# Altium schematic symbol library dungvh03-CERN_Connectors.SchLib: 576 symbols (part 8 of 8)
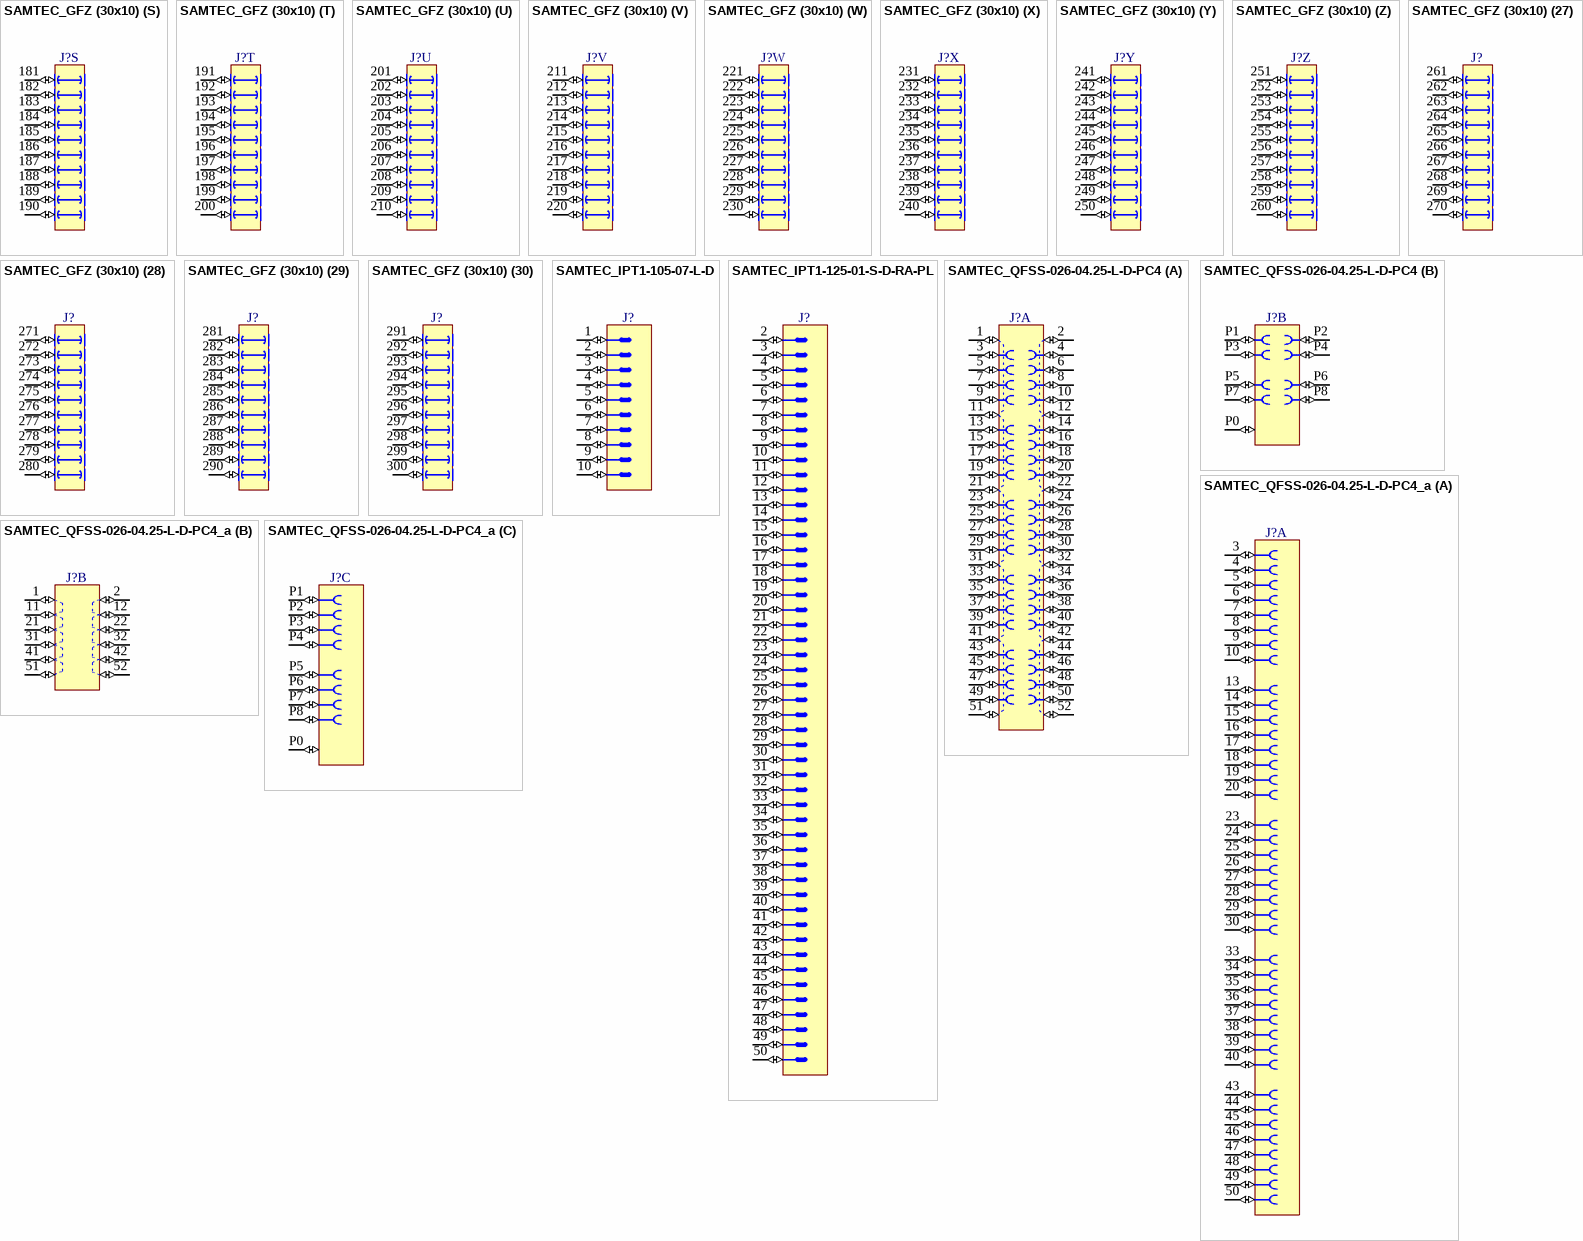
[diagram p82: symbols SAMTEC_GFZ (30x10) to SAMTEC_QFSS-026-04.25-L-D-PC4_a]

## SAMTEC_GFZ (30x10)
designator J?
Connector 300 (10X30)
part A pins: 1 (io), 2 (io), 3 (io), 4 (io), 5 (io), 6 (io), 7 (io), 8 (io), 9 (io), 10 (io)
part B pins: 11 (io), 12 (io), 13 (io), 14 (io), 15 (io), 16 (io), 17 (io), 18 (io), 19 (io), 20 (io)
part C pins: 21 (io), 22 (io), 23 (io), 24 (io), 25 (io), 26 (io), 27 (io), 28 (io), 29 (io), 30 (io)
part D pins: 31 (io), 32 (io), 33 (io), 34 (io), 35 (io), 36 (io), 37 (io), 38 (io), 39 (io), 40 (io)
part E pins: 41 (io), 42 (io), 43 (io), 44 (io), 45 (io), 46 (io), 47 (io), 48 (io), 49 (io), 50 (io)
part F pins: 51 (io), 52 (io), 53 (io), 54 (io), 55 (io), 56 (io), 57 (io), 58 (io), 59 (io), 60 (io)
part G pins: 61 (io), 62 (io), 63 (io), 64 (io), 65 (io), 66 (io), 67 (io), 68 (io), 69 (io), 70 (io)
part H pins: 71 (io), 72 (io), 73 (io), 74 (io), 75 (io), 76 (io), 77 (io), 78 (io), 79 (io), 80 (io)
part I pins: 81 (io), 82 (io), 83 (io), 84 (io), 85 (io), 86 (io), 87 (io), 88 (io), 89 (io), 90 (io)
part J pins: 91 (io), 92 (io), 93 (io), 94 (io), 95 (io), 96 (io), 97 (io), 98 (io), 99 (io), 100 (io)
part K pins: 101 (io), 102 (io), 103 (io), 104 (io), 105 (io), 106 (io), 107 (io), 108 (io), 109 (io), 110 (io)
part L pins: 111 (io), 112 (io), 113 (io), 114 (io), 115 (io), 116 (io), 117 (io), 118 (io), 119 (io), 120 (io)
part M pins: 121 (io), 122 (io), 123 (io), 124 (io), 125 (io), 126 (io), 127 (io), 128 (io), 129 (io), 130 (io)
part N pins: 131 (io), 132 (io), 133 (io), 134 (io), 135 (io), 136 (io), 137 (io), 138 (io), 139 (io), 140 (io)
part O pins: 141 (io), 142 (io), 143 (io), 144 (io), 145 (io), 146 (io), 147 (io), 148 (io), 149 (io), 150 (io)
part P pins: 151 (io), 152 (io), 153 (io), 154 (io), 155 (io), 156 (io), 157 (io), 158 (io), 159 (io), 160 (io)
part Q pins: 161 (io), 162 (io), 163 (io), 164 (io), 165 (io), 166 (io), 167 (io), 168 (io), 169 (io), 170 (io)
part R pins: 171 (io), 172 (io), 173 (io), 174 (io), 175 (io), 176 (io), 177 (io), 178 (io), 179 (io), 180 (io)
part S pins: 181 (io), 182 (io), 183 (io), 184 (io), 185 (io), 186 (io), 187 (io), 188 (io), 189 (io), 190 (io)
part T pins: 191 (io), 192 (io), 193 (io), 194 (io), 195 (io), 196 (io), 197 (io), 198 (io), 199 (io), 200 (io)
part U pins: 201 (io), 202 (io), 203 (io), 204 (io), 205 (io), 206 (io), 207 (io), 208 (io), 209 (io), 210 (io)
part V pins: 211 (io), 212 (io), 213 (io), 214 (io), 215 (io), 216 (io), 217 (io), 218 (io), 219 (io), 220 (io)
part W pins: 221 (io), 222 (io), 223 (io), 224 (io), 225 (io), 226 (io), 227 (io), 228 (io), 229 (io), 230 (io)
part X pins: 231 (io), 232 (io), 233 (io), 234 (io), 235 (io), 236 (io), 237 (io), 238 (io), 239 (io), 240 (io)
part Y pins: 241 (io), 242 (io), 243 (io), 244 (io), 245 (io), 246 (io), 247 (io), 248 (io), 249 (io), 250 (io)
part Z pins: 251 (io), 252 (io), 253 (io), 254 (io), 255 (io), 256 (io), 257 (io), 258 (io), 259 (io), 260 (io)
part 27 pins: 261 (io), 262 (io), 263 (io), 264 (io), 265 (io), 266 (io), 267 (io), 268 (io), 269 (io), 270 (io)
part 28 pins: 271 (io), 272 (io), 273 (io), 274 (io), 275 (io), 276 (io), 277 (io), 278 (io), 279 (io), 280 (io)
part 29 pins: 281 (io), 282 (io), 283 (io), 284 (io), 285 (io), 286 (io), 287 (io), 288 (io), 289 (io), 290 (io)
part 30 pins: 291 (io), 292 (io), 293 (io), 294 (io), 295 (io), 296 (io), 297 (io), 298 (io), 299 (io), 300 (io)
1 alternate drawing of the same symbol

## SAMTEC_IPT1-105-07-L-D
designator J?
Connector 10 Male Vertical
pins: 1 (io), 2 (io), 3 (io), 4 (io), 5 (io), 6 (io), 7 (io), 8 (io), 9 (io), 10 (io)
1 alternate drawing of the same symbol

## SAMTEC_IPT1-125-01-S-D-RA-PL
designator J?
Connector 49 Male (Pin 2 to Pin 50)
pins: 2 (io), 3 (io), 4 (io), 5 (io), 6 (io), 7 (io), 8 (io), 9 (io), 10 (io), 11 (io), 12 (io), 13 (io), 14 (io), 15 (io), 16 (io), 17 (io), 18 (io), 19 (io), 20 (io), 21 (io), 22 (io), 23 (io), 24 (io), 25 (io), 26 (io), 27 (io), 28 (io), 29 (io), 30 (io), 31 (io), 32 (io), 33 (io), 34 (io), 35 (io), 36 (io), 37 (io), 38 (io), 39 (io), 40 (io), 41 (io), 42 (io), 43 (io), 44 (io), 45 (io), 46 (io), 47 (io), 48 (io), 49 (io), 50 (io)
1 alternate drawing of the same symbol

## SAMTEC_QFSS-026-04.25-L-D-PC4
designator J?
52 Pins 0.635mm Pitch (40 Signals + 12 Grounds to Shield) + 2x4 Power Pins, Single-Ended Signaling Shielded Ground Plane Socket
part A pins: 1 (io), 2 (io), 3 (io), 4 (io), 5 (io), 6 (io), 7 (io), 8 (io), 9 (io), 10 (io), 11 (io), 12 (io), 13 (io), 14 (io), 15 (io), 16 (io), 17 (io), 18 (io), 19 (io), 20 (io), 21 (io), 22 (io), 23 (io), 24 (io), 25 (io), 26 (io), 27 (io), 28 (io), 29 (io), 30 (io), 31 (io), 32 (io), 33 (io), 34 (io), 35 (io), 36 (io), 37 (io), 38 (io), 39 (io), 40 (io), 41 (io), 42 (io), 43 (io), 44 (io), 45 (io), 46 (io), 47 (io), 48 (io), 49 (io), 50 (io), 51 (io), 52 (io)
part B pins: P0 (io), P1 (io), P2 (io), P3 (io), P4 (io), P5 (io), P6 (io), P7 (io), P8 (io)

## SAMTEC_QFSS-026-04.25-L-D-PC4_a
designator J?
52 Pins 0.635mm Pitch (40 Signals + 12 Grounds to Shield) + 2x4 Power Pins, Single-Ended Signaling Shielded Ground Plane Socket
part A pins: 3 (io), 4 (io), 5 (io), 6 (io), 7 (io), 8 (io), 9 (io), 10 (io), 13 (io), 14 (io), 15 (io), 16 (io), 17 (io), 18 (io), 19 (io), 20 (io), 23 (io), 24 (io), 25 (io), 26 (io), 27 (io), 28 (io), 29 (io), 30 (io), 33 (io), 34 (io), 35 (io), 36 (io), 37 (io), 38 (io), 39 (io), 40 (io), 43 (io), 44 (io), 45 (io), 46 (io), 47 (io), 48 (io), 49 (io), 50 (io)
part B pins: 1 (io), 2 (io), 11 (io), 12 (io), 21 (io), 22 (io), 31 (io), 32 (io), 41 (io), 42 (io), 51 (io), 52 (io)
part C pins: P0 (io), P1 (io), P2 (io), P3 (io), P4 (io), P5 (io), P6 (io), P7 (io), P8 (io)

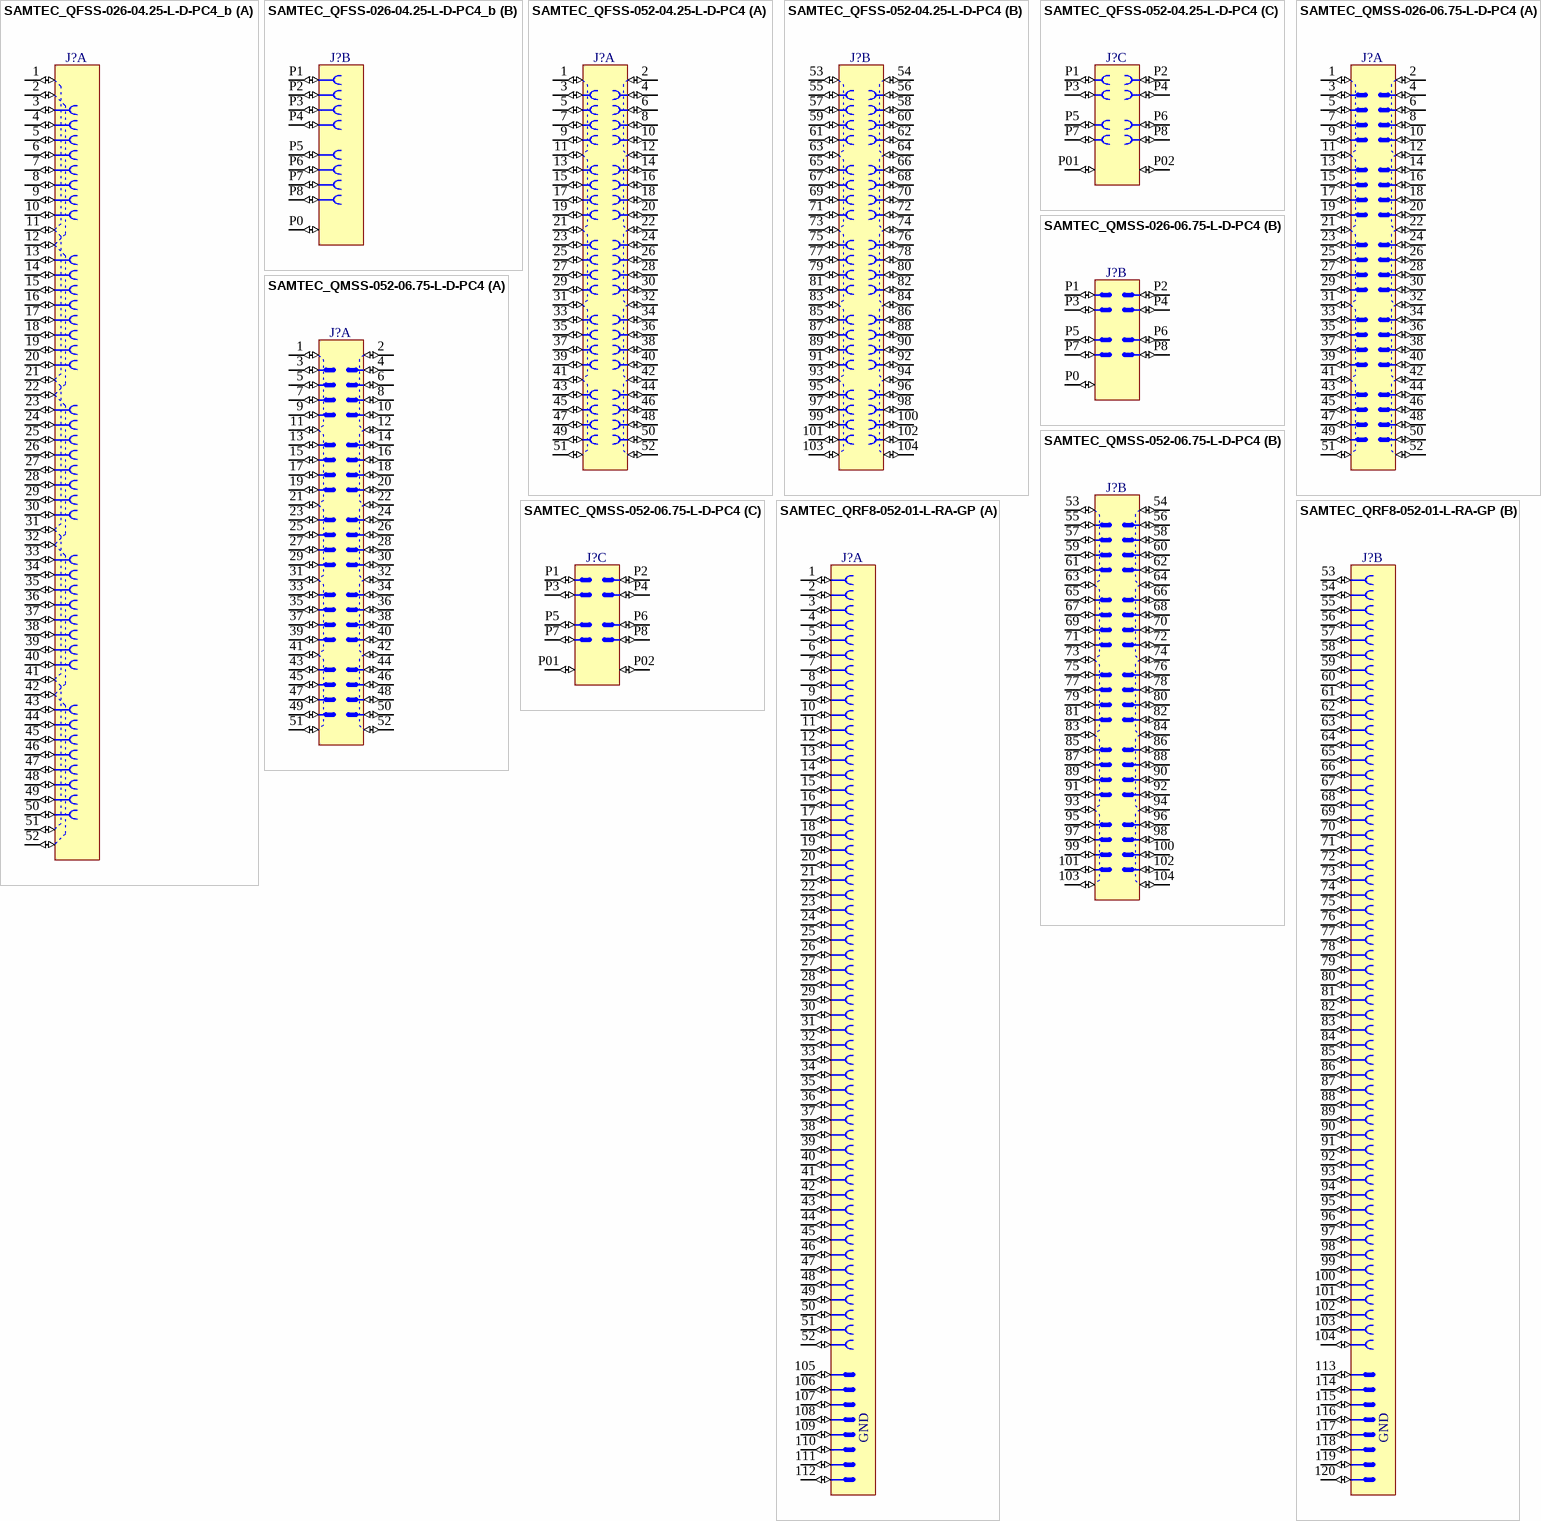
[diagram p68: symbols SAMTEC_QFSS-026-04.25-L-D-PC4_b to SAMTEC_QRF8-052-01-L-RA-GP]

## SAMTEC_QFSS-026-04.25-L-D-PC4_b
designator J?
52 Pins 0.635mm Pitch (40 Signals + 12 Grounds to Shield) + 2x4 Power Pins, Single-Ended Signaling Shielded Ground Plane Socket
part A pins: 1 (io), 2 (io), 3 (io), 4 (io), 5 (io), 6 (io), 7 (io), 8 (io), 9 (io), 10 (io), 11 (io), 12 (io), 13 (io), 14 (io), 15 (io), 16 (io), 17 (io), 18 (io), 19 (io), 20 (io), 21 (io), 22 (io), 23 (io), 24 (io), 25 (io), 26 (io), 27 (io), 28 (io), 29 (io), 30 (io), 31 (io), 32 (io), 33 (io), 34 (io), 35 (io), 36 (io), 37 (io), 38 (io), 39 (io), 40 (io), 41 (io), 42 (io), 43 (io), 44 (io), 45 (io), 46 (io), 47 (io), 48 (io), 49 (io), 50 (io), 51 (io), 52 (io)
part B pins: P0 (io), P1 (io), P2 (io), P3 (io), P4 (io), P5 (io), P6 (io), P7 (io), P8 (io)

## SAMTEC_QFSS-052-04.25-L-D-PC4
designator J?
104 Pins 0.635mm Pitch (4x20 Signals + 4x6 Grounds to Shield) + 2x4 Power Pins, Single-Ended Signaling Shielded Ground Plane Header
part A pins: 1 (io), 2 (io), 3 (io), 4 (io), 5 (io), 6 (io), 7 (io), 8 (io), 9 (io), 10 (io), 11 (io), 12 (io), 13 (io), 14 (io), 15 (io), 16 (io), 17 (io), 18 (io), 19 (io), 20 (io), 21 (io), 22 (io), 23 (io), 24 (io), 25 (io), 26 (io), 27 (io), 28 (io), 29 (io), 30 (io), 31 (io), 32 (io), 33 (io), 34 (io), 35 (io), 36 (io), 37 (io), 38 (io), 39 (io), 40 (io), 41 (io), 42 (io), 43 (io), 44 (io), 45 (io), 46 (io), 47 (io), 48 (io), 49 (io), 50 (io), 51 (io), 52 (io)
part B pins: 53 (io), 54 (io), 55 (io), 56 (io), 57 (io), 58 (io), 59 (io), 60 (io), 61 (io), 62 (io), 63 (io), 64 (io), 65 (io), 66 (io), 67 (io), 68 (io), 69 (io), 70 (io), 71 (io), 72 (io), 73 (io), 74 (io), 75 (io), 76 (io), 77 (io), 78 (io), 79 (io), 80 (io), 81 (io), 82 (io), 83 (io), 84 (io), 85 (io), 86 (io), 87 (io), 88 (io), 89 (io), 90 (io), 91 (io), 92 (io), 93 (io), 94 (io), 95 (io), 96 (io), 97 (io), 98 (io), 99 (io), 100 (io), 101 (io), 102 (io), 103 (io), 104 (io)
part C pins: P1 (io), P01 (io), P2 (io), P02 (io), P3 (io), P4 (io), P5 (io), P6 (io), P7 (io), P8 (io)

## SAMTEC_QMSS-026-06.75-L-D-PC4
designator J?
52 Pins 0.635mm Pitch (40 Signals + 12 Grounds to Shield) + 2x4 Power Pins, Single-Ended Signaling Shielded Ground Plane Header
part A pins: 1 (io), 2 (io), 3 (io), 4 (io), 5 (io), 6 (io), 7 (io), 8 (io), 9 (io), 10 (io), 11 (io), 12 (io), 13 (io), 14 (io), 15 (io), 16 (io), 17 (io), 18 (io), 19 (io), 20 (io), 21 (io), 22 (io), 23 (io), 24 (io), 25 (io), 26 (io), 27 (io), 28 (io), 29 (io), 30 (io), 31 (io), 32 (io), 33 (io), 34 (io), 35 (io), 36 (io), 37 (io), 38 (io), 39 (io), 40 (io), 41 (io), 42 (io), 43 (io), 44 (io), 45 (io), 46 (io), 47 (io), 48 (io), 49 (io), 50 (io), 51 (io), 52 (io)
part B pins: P0 (io), P1 (io), P2 (io), P3 (io), P4 (io), P5 (io), P6 (io), P7 (io), P8 (io)

## SAMTEC_QMSS-052-06.75-L-D-PC4
designator J?
104 Pins 0.635mm Pitch (40 Signals + 12 Grounds to Shield) + 2x4 Power Pins, Single-Ended Signaling Shielded Ground Plane Header
part A pins: 1 (io), 2 (io), 3 (io), 4 (io), 5 (io), 6 (io), 7 (io), 8 (io), 9 (io), 10 (io), 11 (io), 12 (io), 13 (io), 14 (io), 15 (io), 16 (io), 17 (io), 18 (io), 19 (io), 20 (io), 21 (io), 22 (io), 23 (io), 24 (io), 25 (io), 26 (io), 27 (io), 28 (io), 29 (io), 30 (io), 31 (io), 32 (io), 33 (io), 34 (io), 35 (io), 36 (io), 37 (io), 38 (io), 39 (io), 40 (io), 41 (io), 42 (io), 43 (io), 44 (io), 45 (io), 46 (io), 47 (io), 48 (io), 49 (io), 50 (io), 51 (io), 52 (io)
part B pins: 53 (io), 54 (io), 55 (io), 56 (io), 57 (io), 58 (io), 59 (io), 60 (io), 61 (io), 62 (io), 63 (io), 64 (io), 65 (io), 66 (io), 67 (io), 68 (io), 69 (io), 70 (io), 71 (io), 72 (io), 73 (io), 74 (io), 75 (io), 76 (io), 77 (io), 78 (io), 79 (io), 80 (io), 81 (io), 82 (io), 83 (io), 84 (io), 85 (io), 86 (io), 87 (io), 88 (io), 89 (io), 90 (io), 91 (io), 92 (io), 93 (io), 94 (io), 95 (io), 96 (io), 97 (io), 98 (io), 99 (io), 100 (io), 101 (io), 102 (io), 103 (io), 104 (io)
part C pins: P1 (io), P01 (io), P2 (io), P02 (io), P3 (io), P4 (io), P5 (io), P6 (io), P7 (io), P8 (io)

## SAMTEC_QRF8-052-01-L-RA-GP
designator J?
104 Contacts (2x52), Pitch 0.8mm, Right Angle Ground Plane Socket, QRF8-RA Serie
part A pins: 1 (io), 2 (io), 3 (io), 4 (io), 5 (io), 6 (io), 7 (io), 8 (io), 9 (io), 10 (io), 11 (io), 12 (io), 13 (io), 14 (io), 15 (io), 16 (io), 17 (io), 18 (io), 19 (io), 20 (io), 21 (io), 22 (io), 23 (io), 24 (io), 25 (io), 26 (io), 27 (io), 28 (io), 29 (io), 30 (io), 31 (io), 32 (io), 33 (io), 34 (io), 35 (io), 36 (io), 37 (io), 38 (io), 39 (io), 40 (io), 41 (io), 42 (io), 43 (io), 44 (io), 45 (io), 46 (io), 47 (io), 48 (io), 49 (io), 50 (io), 51 (io), 52 (io), 105 GND (io), 106 GND (io), 107 GND (io), 108 GND (io), 109 GND (io), 110 GND (io), 111 GND (io), 112 GND (io)
part B pins: 53 (io), 54 (io), 55 (io), 56 (io), 57 (io), 58 (io), 59 (io), 60 (io), 61 (io), 62 (io), 63 (io), 64 (io), 65 (io), 66 (io), 67 (io), 68 (io), 69 (io), 70 (io), 71 (io), 72 (io), 73 (io), 74 (io), 75 (io), 76 (io), 77 (io), 78 (io), 79 (io), 80 (io), 81 (io), 82 (io), 83 (io), 84 (io), 85 (io), 86 (io), 87 (io), 88 (io), 89 (io), 90 (io), 91 (io), 92 (io), 93 (io), 94 (io), 95 (io), 96 (io), 97 (io), 98 (io), 99 (io), 100 (io), 101 (io), 102 (io), 103 (io), 104 (io), 113 GND (io), 114 GND (io), 115 GND (io), 116 GND (io), 117 GND (io), 118 GND (io), 119 GND (io), 120 GND (io)

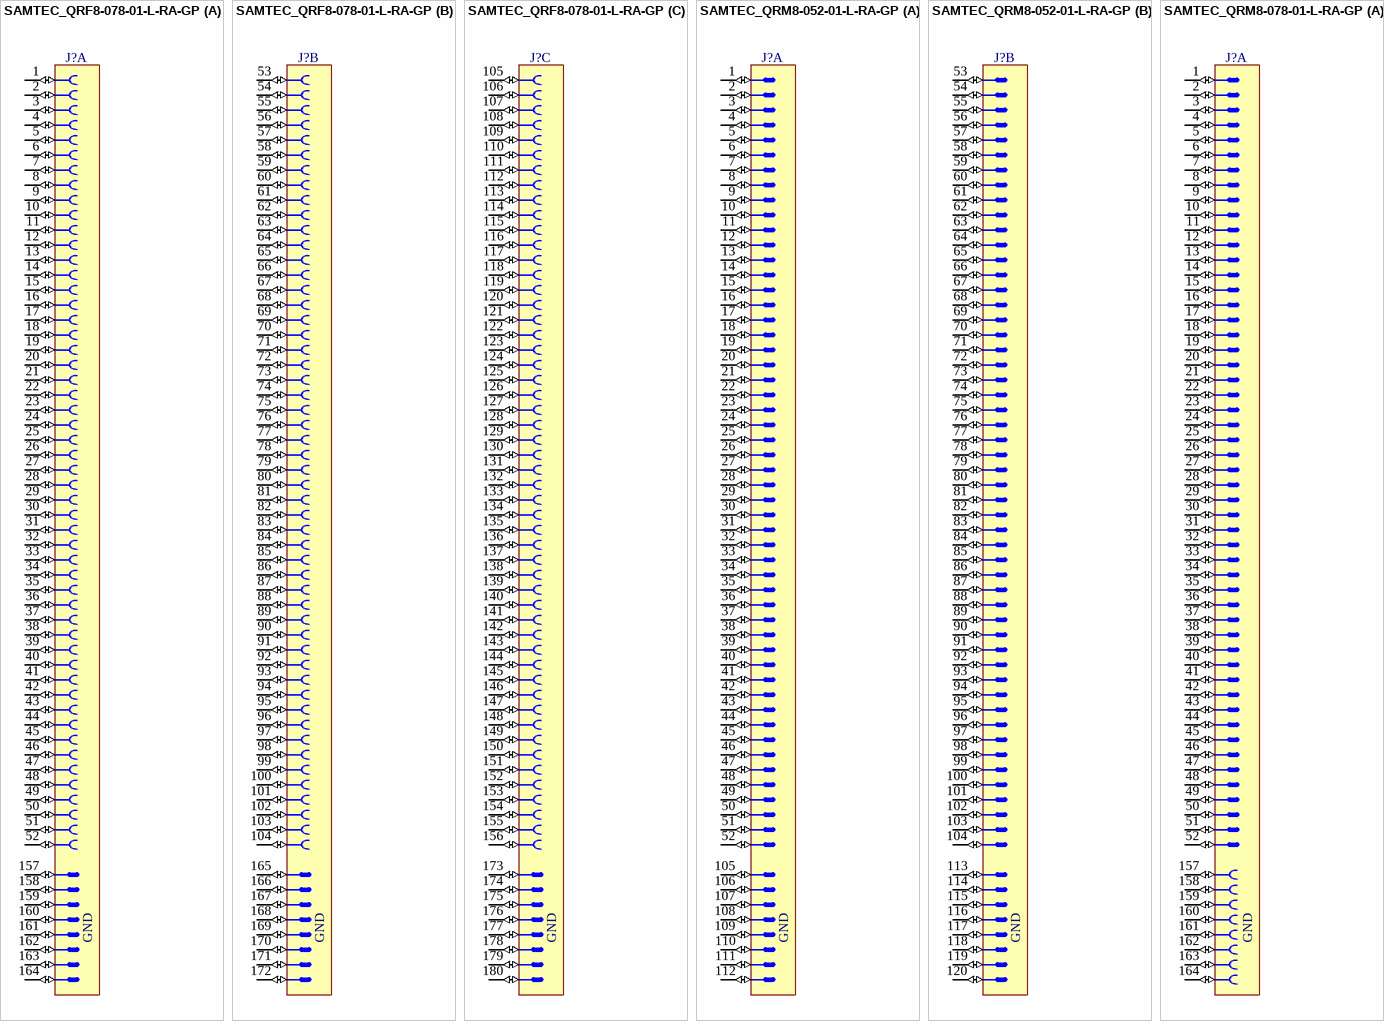
[diagram p69: symbols SAMTEC_QRF8-078-01-L-RA-GP to SAMTEC_QRM8-078-01-L-RA-GP]

## SAMTEC_QRF8-078-01-L-RA-GP
designator J?
156 Contacts (3x52), Pitch 0.8mm, Right Angle Ground Plane Socket, QRF8-RA Serie
part A pins: 1 (io), 2 (io), 3 (io), 4 (io), 5 (io), 6 (io), 7 (io), 8 (io), 9 (io), 10 (io), 11 (io), 12 (io), 13 (io), 14 (io), 15 (io), 16 (io), 17 (io), 18 (io), 19 (io), 20 (io), 21 (io), 22 (io), 23 (io), 24 (io), 25 (io), 26 (io), 27 (io), 28 (io), 29 (io), 30 (io), 31 (io), 32 (io), 33 (io), 34 (io), 35 (io), 36 (io), 37 (io), 38 (io), 39 (io), 40 (io), 41 (io), 42 (io), 43 (io), 44 (io), 45 (io), 46 (io), 47 (io), 48 (io), 49 (io), 50 (io), 51 (io), 52 (io), 157 GND (io), 158 GND (io), 159 GND (io), 160 GND (io), 161 GND (io), 162 GND (io), 163 GND (io), 164 GND (io)
part B pins: 53 (io), 54 (io), 55 (io), 56 (io), 57 (io), 58 (io), 59 (io), 60 (io), 61 (io), 62 (io), 63 (io), 64 (io), 65 (io), 66 (io), 67 (io), 68 (io), 69 (io), 70 (io), 71 (io), 72 (io), 73 (io), 74 (io), 75 (io), 76 (io), 77 (io), 78 (io), 79 (io), 80 (io), 81 (io), 82 (io), 83 (io), 84 (io), 85 (io), 86 (io), 87 (io), 88 (io), 89 (io), 90 (io), 91 (io), 92 (io), 93 (io), 94 (io), 95 (io), 96 (io), 97 (io), 98 (io), 99 (io), 100 (io), 101 (io), 102 (io), 103 (io), 104 (io), 165 GND (io), 166 GND (io), 167 GND (io), 168 GND (io), 169 GND (io), 170 GND (io), 171 GND (io), 172 GND (io)
part C pins: 105 (io), 106 (io), 107 (io), 108 (io), 109 (io), 110 (io), 111 (io), 112 (io), 113 (io), 114 (io), 115 (io), 116 (io), 117 (io), 118 (io), 119 (io), 120 (io), 121 (io), 122 (io), 123 (io), 124 (io), 125 (io), 126 (io), 127 (io), 128 (io), 129 (io), 130 (io), 131 (io), 132 (io), 133 (io), 134 (io), 135 (io), 136 (io), 137 (io), 138 (io), 139 (io), 140 (io), 141 (io), 142 (io), 143 (io), 144 (io), 145 (io), 146 (io), 147 (io), 148 (io), 149 (io), 150 (io), 151 (io), 152 (io), 153 (io), 154 (io), 155 (io), 156 (io), 173 GND (io), 174 GND (io), 175 GND (io), 176 GND (io), 177 GND (io), 178 GND (io), 179 GND (io), 180 GND (io)

## SAMTEC_QRM8-052-01-L-RA-GP
designator J?
104 Contacts (2x52), Pitch 0.8mm, Right Angle Ground Plane Header, QRM8-RA Series
part A pins: 1 (io), 2 (io), 3 (io), 4 (io), 5 (io), 6 (io), 7 (io), 8 (io), 9 (io), 10 (io), 11 (io), 12 (io), 13 (io), 14 (io), 15 (io), 16 (io), 17 (io), 18 (io), 19 (io), 20 (io), 21 (io), 22 (io), 23 (io), 24 (io), 25 (io), 26 (io), 27 (io), 28 (io), 29 (io), 30 (io), 31 (io), 32 (io), 33 (io), 34 (io), 35 (io), 36 (io), 37 (io), 38 (io), 39 (io), 40 (io), 41 (io), 42 (io), 43 (io), 44 (io), 45 (io), 46 (io), 47 (io), 48 (io), 49 (io), 50 (io), 51 (io), 52 (io), 105 GND (io), 106 GND (io), 107 GND (io), 108 GND (io), 109 GND (io), 110 GND (io), 111 GND (io), 112 GND (io)
part B pins: 53 (io), 54 (io), 55 (io), 56 (io), 57 (io), 58 (io), 59 (io), 60 (io), 61 (io), 62 (io), 63 (io), 64 (io), 65 (io), 66 (io), 67 (io), 68 (io), 69 (io), 70 (io), 71 (io), 72 (io), 73 (io), 74 (io), 75 (io), 76 (io), 77 (io), 78 (io), 79 (io), 80 (io), 81 (io), 82 (io), 83 (io), 84 (io), 85 (io), 86 (io), 87 (io), 88 (io), 89 (io), 90 (io), 91 (io), 92 (io), 93 (io), 94 (io), 95 (io), 96 (io), 97 (io), 98 (io), 99 (io), 100 (io), 101 (io), 102 (io), 103 (io), 104 (io), 113 GND (io), 114 GND (io), 115 GND (io), 116 GND (io), 117 GND (io), 118 GND (io), 119 GND (io), 120 GND (io)

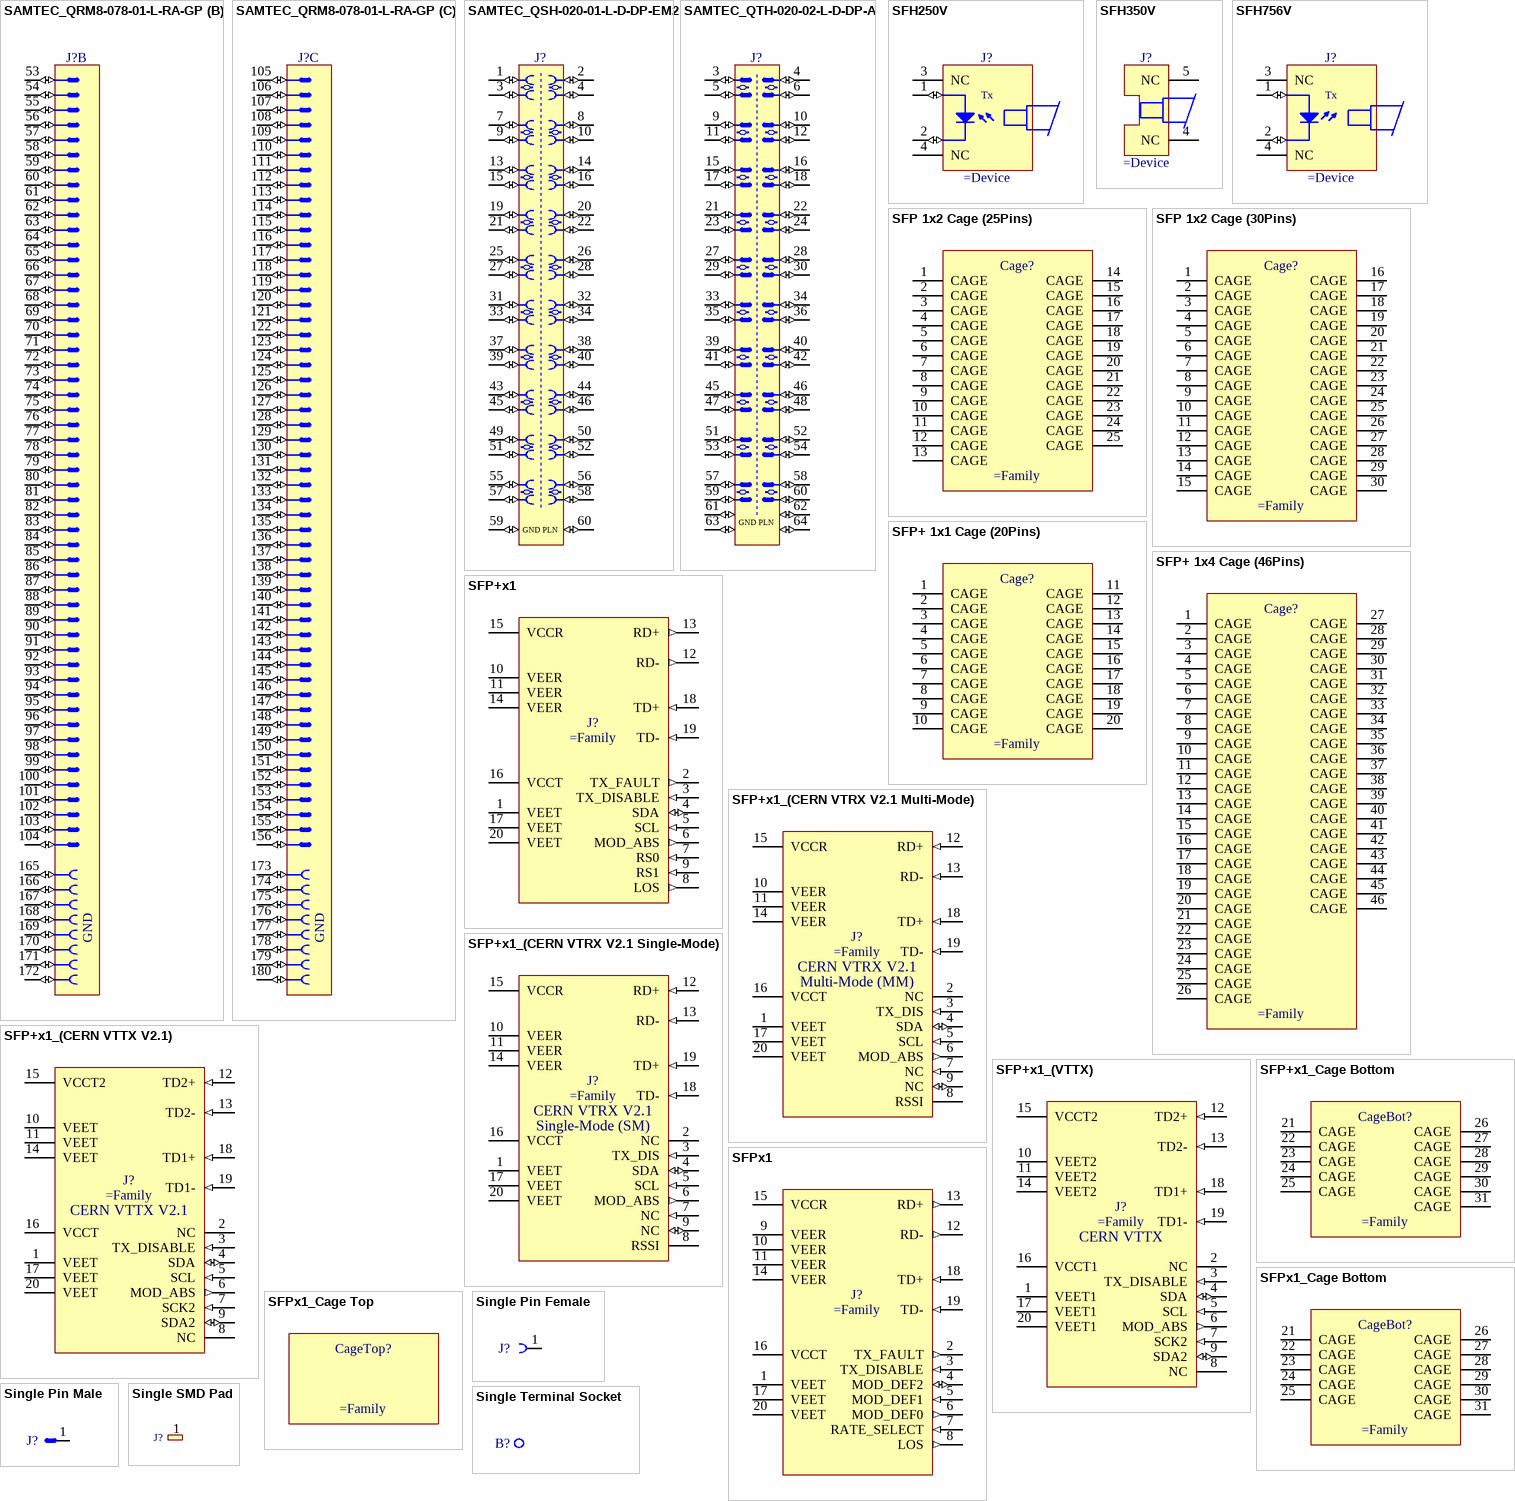
[diagram p70: symbols SAMTEC_QRM8-078-01-L-RA-GP to Single Terminal Socket]

## SAMTEC_QRM8-078-01-L-RA-GP
designator J?
156 Contacts (3x52), Pitch 0.8mm, Right Angle Ground Plane Header, QRM8-RA Series
part A pins: 1 (io), 2 (io), 3 (io), 4 (io), 5 (io), 6 (io), 7 (io), 8 (io), 9 (io), 10 (io), 11 (io), 12 (io), 13 (io), 14 (io), 15 (io), 16 (io), 17 (io), 18 (io), 19 (io), 20 (io), 21 (io), 22 (io), 23 (io), 24 (io), 25 (io), 26 (io), 27 (io), 28 (io), 29 (io), 30 (io), 31 (io), 32 (io), 33 (io), 34 (io), 35 (io), 36 (io), 37 (io), 38 (io), 39 (io), 40 (io), 41 (io), 42 (io), 43 (io), 44 (io), 45 (io), 46 (io), 47 (io), 48 (io), 49 (io), 50 (io), 51 (io), 52 (io), 157 GND (io), 158 GND (io), 159 GND (io), 160 GND (io), 161 GND (io), 162 GND (io), 163 GND (io), 164 GND (io)
part B pins: 53 (io), 54 (io), 55 (io), 56 (io), 57 (io), 58 (io), 59 (io), 60 (io), 61 (io), 62 (io), 63 (io), 64 (io), 65 (io), 66 (io), 67 (io), 68 (io), 69 (io), 70 (io), 71 (io), 72 (io), 73 (io), 74 (io), 75 (io), 76 (io), 77 (io), 78 (io), 79 (io), 80 (io), 81 (io), 82 (io), 83 (io), 84 (io), 85 (io), 86 (io), 87 (io), 88 (io), 89 (io), 90 (io), 91 (io), 92 (io), 93 (io), 94 (io), 95 (io), 96 (io), 97 (io), 98 (io), 99 (io), 100 (io), 101 (io), 102 (io), 103 (io), 104 (io), 165 GND (io), 166 GND (io), 167 GND (io), 168 GND (io), 169 GND (io), 170 GND (io), 171 GND (io), 172 GND (io)
part C pins: 105 (io), 106 (io), 107 (io), 108 (io), 109 (io), 110 (io), 111 (io), 112 (io), 113 (io), 114 (io), 115 (io), 116 (io), 117 (io), 118 (io), 119 (io), 120 (io), 121 (io), 122 (io), 123 (io), 124 (io), 125 (io), 126 (io), 127 (io), 128 (io), 129 (io), 130 (io), 131 (io), 132 (io), 133 (io), 134 (io), 135 (io), 136 (io), 137 (io), 138 (io), 139 (io), 140 (io), 141 (io), 142 (io), 143 (io), 144 (io), 145 (io), 146 (io), 147 (io), 148 (io), 149 (io), 150 (io), 151 (io), 152 (io), 153 (io), 154 (io), 155 (io), 156 (io), 173 GND (io), 174 GND (io), 175 GND (io), 176 GND (io), 177 GND (io), 178 GND (io), 179 GND (io), 180 GND (io)

## SAMTEC_QSH-020-01-L-D-DP-EM2
designator J?
40 Contacts (20 Differential Pairs) + 2 Ground, Pitch 0.5mm, Right Angle (PCB Edge Mount), High Speed Ground Plane Socket
pins: 1 (io), 2 (io), 3 (io), 4 (io), 7 (io), 8 (io), 9 (io), 10 (io), 13 (io), 14 (io), 15 (io), 16 (io), 19 (io), 20 (io), 21 (io), 22 (io), 25 (io), 26 (io), 27 (io), 28 (io), 31 (io), 32 (io), 33 (io), 34 (io), 37 (io), 38 (io), 39 (io), 40 (io), 43 (io), 44 (io), 45 (io), 46 (io), 49 (io), 50 (io), 51 (io), 52 (io), 55 (io), 56 (io), 57 (io), 58 (io), 59 (io), 60 (io)
text: GND PLN

## SAMTEC_QTH-020-02-L-D-DP-A
designator J?
40 Contacts (20 Differential Pairs) + 4 Ground, Pitch 0.5mm, Straight Double Row, High Speed Ground Plane Header
pins: 3 (io), 4 (io), 5 (io), 6 (io), 9 (io), 10 (io), 11 (io), 12 (io), 15 (io), 16 (io), 17 (io), 18 (io), 21 (io), 22 (io), 23 (io), 24 (io), 27 (io), 28 (io), 29 (io), 30 (io), 33 (io), 34 (io), 35 (io), 36 (io), 39 (io), 40 (io), 41 (io), 42 (io), 45 (io), 46 (io), 47 (io), 48 (io), 51 (io), 52 (io), 53 (io), 54 (io), 57 (io), 58 (io), 59 (io), 60 (io), 61 GND PLN (io), 62 GND PLN (io), 63 GND PLN (io), 64 GND PLN (io)

## SFH250V
designator J?
Plastic Connector Housing For Plastic Fiber Optic Photodiode Detector
pins: 1 A (io), 2 C (io), 3 NC, 4 NC
text: Tx

## SFH350V
designator J?
Plastic Connector Housing For Plastic Fiber Optic Phototransistor Detector
pins: 4 NC, 5 NC

## SFH756V
designator J?
Plastic Connector Housing For Plastic Fiber Optic Photodiode Detector
pins: 1 A (io), 2 C (io), 3 NC, 4 NC
text: Tx

## SFP 1x2 Cage (25Pins)
designator Cage?
SFP 1x2 Cage (25Pins)
pins: 1 CAGE (power), 2 CAGE (power), 3 CAGE (power), 4 CAGE (power), 5 CAGE (power), 6 CAGE (power), 7 CAGE (power), 8 CAGE (power), 9 CAGE (power), 10 CAGE (power), 11 CAGE (power), 12 CAGE (power), 13 CAGE (power), 14 CAGE (power), 15 CAGE (power), 16 CAGE (power), 17 CAGE (power), 18 CAGE (power), 19 CAGE (power), 20 CAGE (power), 21 CAGE (power), 22 CAGE (power), 23 CAGE (power), 24 CAGE (power), 25 CAGE (power)

## SFP 1x2 Cage (30Pins)
designator Cage?
SFP 1x2 Cage (30Pins)
pins: 1 CAGE (power), 2 CAGE (power), 3 CAGE (power), 4 CAGE (power), 5 CAGE (power), 6 CAGE (power), 7 CAGE (power), 8 CAGE (power), 9 CAGE (power), 10 CAGE (power), 11 CAGE (power), 12 CAGE (power), 13 CAGE (power), 14 CAGE (power), 15 CAGE (power), 16 CAGE (power), 17 CAGE (power), 18 CAGE (power), 19 CAGE (power), 20 CAGE (power), 21 CAGE (power), 22 CAGE (power), 23 CAGE (power), 24 CAGE (power), 25 CAGE (power), 26 CAGE (power), 27 CAGE (power), 28 CAGE (power), 29 CAGE (power), 30 CAGE (power)

## SFP+ 1x1 Cage (20Pins)
designator Cage?
SFP+ 1x1 Cage (20Pins)
pins: 1 CAGE (power), 2 CAGE (power), 3 CAGE (power), 4 CAGE (power), 5 CAGE (power), 6 CAGE (power), 7 CAGE (power), 8 CAGE (power), 9 CAGE (power), 10 CAGE (power), 11 CAGE (power), 12 CAGE (power), 13 CAGE (power), 14 CAGE (power), 15 CAGE (power), 16 CAGE (power), 17 CAGE (power), 18 CAGE (power), 19 CAGE (power), 20 CAGE (power)

## SFP+ 1x4 Cage (46Pins)
designator Cage?
SFP+  1x4 Cage (46 Pins)
pins: 1 CAGE (power), 2 CAGE (power), 3 CAGE (power), 4 CAGE (power), 5 CAGE (power), 6 CAGE (power), 7 CAGE (power), 8 CAGE (power), 9 CAGE (power), 10 CAGE (power), 11 CAGE (power), 12 CAGE (power), 13 CAGE (power), 14 CAGE (power), 15 CAGE (power), 16 CAGE (power), 17 CAGE (power), 18 CAGE (power), 19 CAGE (power), 20 CAGE (power), 21 CAGE (power), 22 CAGE (power), 23 CAGE (power), 24 CAGE (power), 25 CAGE (power), 26 CAGE (power), 27 CAGE (power), 28 CAGE (power), 29 CAGE (power), 30 CAGE (power), 31 CAGE (power), 32 CAGE (power), 33 CAGE (power), 34 CAGE (power), 35 CAGE (power), 36 CAGE (power), 37 CAGE (power), 38 CAGE (power), 39 CAGE (power), 40 CAGE (power), 41 CAGE (power), 42 CAGE (power), 43 CAGE (power), 44 CAGE (power), 45 CAGE (power), 46 CAGE (power)

## SFP+x1
designator J?
20 Position SFP+ Connector (Small Form-factor Pluggable)
pins: 1 VEET (power), 2 TX_FAULT (out), 3 TX_DISABLE (in), 4 SDA (io), 5 SCL (in), 6 MOD_ABS (out), 7 RS0 (in), 8 LOS (out), 9 RS1 (in), 10 VEER (power), 11 VEER (power), 12 RD- (out), 13 RD+ (out), 14 VEER (power), 15 VCCR (power), 16 VCCT (power), 17 VEET (power), 18 TD+ (in), 19 TD- (in), 20 VEET (power)

## SFP+x1_(CERN VTRX V2.1 Multi-Mode)
designator J?
20 Position SFP+ Connector (Small Form-factor Pluggable) CERN VTRX Multi-Mode (Versatile Transmitter Module) Pinout
pins: 1 VEET (power), 2 NC, 3 TX_DIS (in), 4 SDA (io), 5 SCL (in), 6 MOD_ABS (out), 7 NC (in), 8 RSSI, 9 NC (io), 10 VEER (power), 11 VEER (power), 12 RD+ (in), 13 RD- (in), 14 VEER (power), 15 VCCR (power), 16 VCCT (power), 17 VEET (power), 18 TD+ (in), 19 TD- (in), 20 VEET (power)
text: CERN VTRX V2.1; Multi-Mode (MM)

## SFP+x1_(CERN VTRX V2.1 Single-Mode)
designator J?
20 Position SFP+ Connector (Small Form-factor Pluggable) CERN VTRX Single-Mode (Versatile Transmitter Module) Pinout
pins: 1 VEET (power), 2 NC, 3 TX_DIS (in), 4 SDA (io), 5 SCL (in), 6 MOD_ABS (out), 7 NC (in), 8 RSSI, 9 NC (io), 10 VEER (power), 11 VEER (power), 12 RD+ (in), 13 RD- (in), 14 VEER (power), 15 VCCR (power), 16 VCCT (power), 17 VEET (power), 18 TD- (in), 19 TD+ (in), 20 VEET (power)
text: CERN VTRX V2.1; Single-Mode (SM)

## SFP+x1_(CERN VTTX V2.1)
designator J?
20 Position SFP+ Connector (Small Form-factor Pluggable) VTTX (Versatile Twin Transmitter) Pinout
pins: 1 VEET (power), 2 NC, 3 TX_DISABLE (in), 4 SDA (io), 5 SCL (in), 6 MOD_ABS (out), 7 SCK2 (in), 8 NC, 9 SDA2 (io), 10 VEET (power), 11 VEET (power), 12 TD2+ (in), 13 TD2- (in), 14 VEET (power), 15 VCCT2 (power), 16 VCCT (power), 17 VEET (power), 18 TD1+ (in), 19 TD1- (in), 20 VEET (power)
text: CERN VTTX V2.1

## SFP+x1_(VTTX)
designator J?
20 Position SFP+ Connector (Small Form-factor Pluggable) VTTX (Versatile Twin Transmitter) Pinout
pins: 1 VEET1 (power), 2 NC, 3 TX_DISABLE (in), 4 SDA (io), 5 SCL (in), 6 MOD_ABS (out), 7 SCK2 (in), 8 NC, 9 SDA2 (io), 10 VEET2 (power), 11 VEET2 (power), 12 TD2+ (in), 13 TD2- (in), 14 VEET2 (power), 15 VCCT2 (power), 16 VCCT1 (power), 17 VEET1 (power), 18 TD1+ (in), 19 TD1- (in), 20 VEET1 (power)
text: CERN VTTX

## SFP+x1_Cage Bottom
designator CageBot?
SFP+  Cage Bottom (Small Form-factor Pluggable)
pins: 21 CAGE (power), 22 CAGE (power), 23 CAGE (power), 24 CAGE (power), 25 CAGE (power), 26 CAGE (power), 27 CAGE (power), 28 CAGE (power), 29 CAGE (power), 30 CAGE (power), 31 CAGE (power)

## SFPx1
designator J?
20 Position SFP  Connector (Small Form-factor Pluggable)
pins: 1 VEET (power), 2 TX_FAULT (out), 3 TX_DISABLE (in), 4 MOD_DEF2 (io), 5 MOD_DEF1 (in), 6 MOD_DEF0 (out), 7 RATE_SELECT (in), 8 LOS (out), 9 VEER (power), 10 VEER (power), 11 VEER (power), 12 RD- (out), 13 RD+ (out), 14 VEER (power), 15 VCCR (power), 16 VCCT (power), 17 VEET (power), 18 TD+ (in), 19 TD- (in), 20 VEET (power)

## SFPx1_Cage Bottom
designator CageBot?
SFP  Cage Bottom (Small Form-factor Pluggable)
pins: 21 CAGE (power), 22 CAGE (power), 23 CAGE (power), 24 CAGE (power), 25 CAGE (power), 26 CAGE (power), 27 CAGE (power), 28 CAGE (power), 29 CAGE (power), 30 CAGE (power), 31 CAGE (power)

## SFPx1_Cage Top
designator CageTop?
SFP  Cage Top (Small Form-factor Pluggable)

## Single Pin Female
designator J?
Single Pin Female
pins: 1 (io)

## Single Pin Male
designator J?
Single Pin Male
pins: 1 (io)

## Single SMD Pad
designator J?
Single SMD Pad
pins: 1 (io)

## Single Terminal Socket
designator B?
Single Terminal Socket
pins: 1 (io)

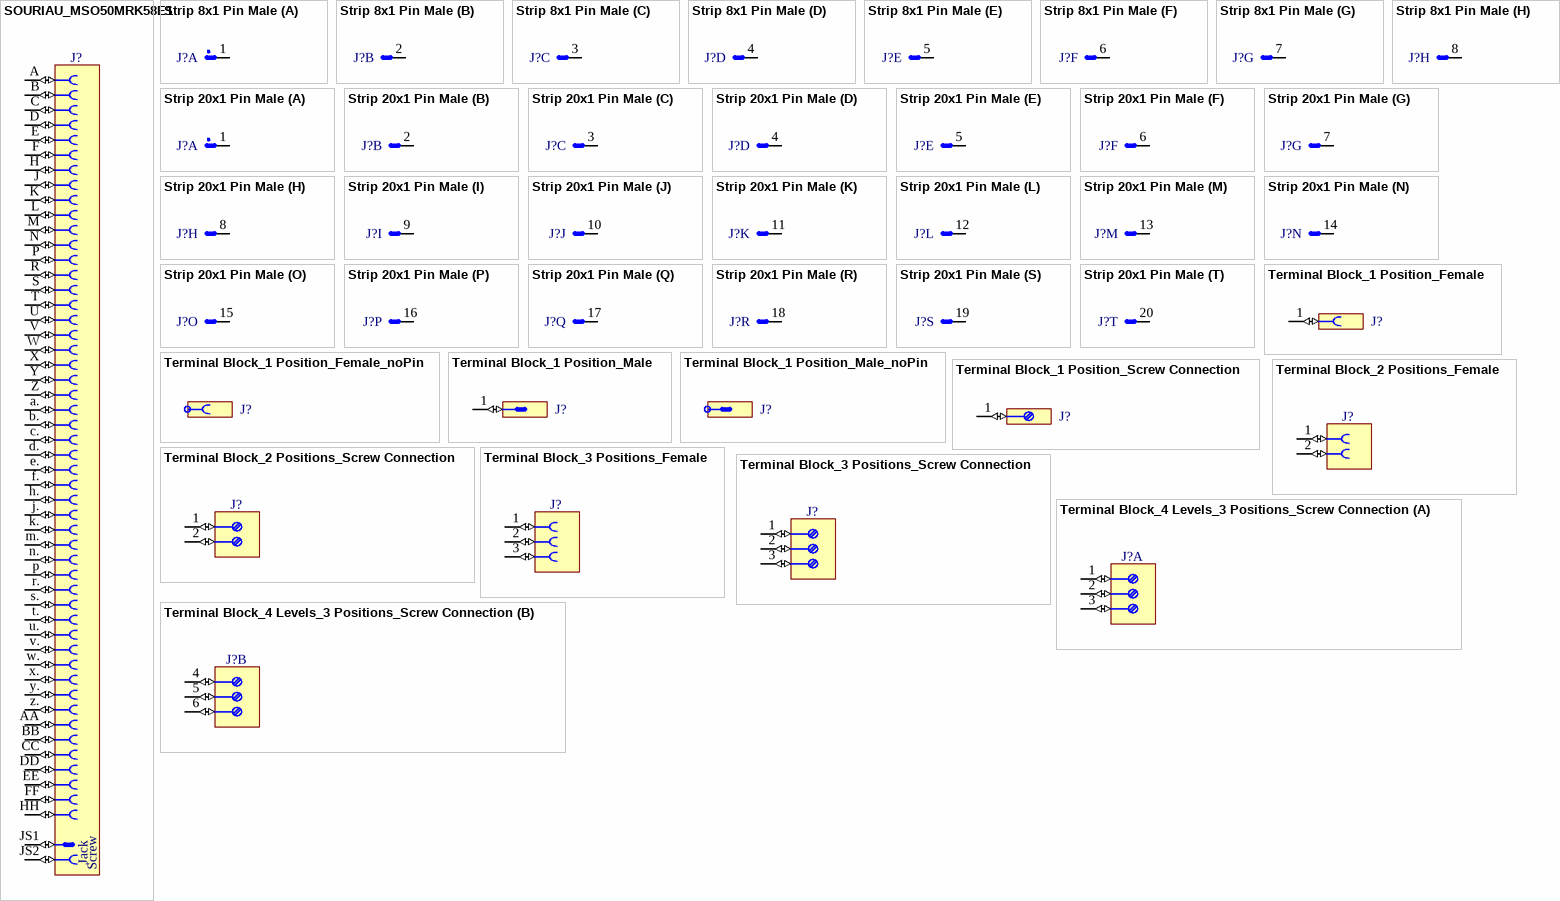
[diagram p71: symbols SOURIAU_MSO50MRK58E1 to Terminal Block_4 Levels_3 Positions_Screw Connection]

## SOURIAU_MSO50MRK58E1
designator J?
Connector 50 Female
pins: A (io), a. a (io), AA (io), B (io), b. b (io), BB (io), C (io), c. c (io), CC (io), D (io), d. d (io), DD (io), E (io), e. e (io), EE (io), F (io), f. f (io), FF (io), H (io), h. h (io), HH (io), J (io), j. j (io), JS1 (io), JS2 (io), K (io), k. k (io), L (io), M (io), m. m (io), N (io), n. n (io), P (io), p (io), R (io), r. r (io), S (io), s. s (io), T (io), t. t (io), U (io), u. u (io), V (io), v. v (io), W (io), w. w (io), X (io), x. x (io), Y (io), y. y (io), Z (io), z. z (io)
1 alternate drawing of the same symbol
text: Jack; Screw

## Strip 8x1 Pin Male
designator J?
Strip 8x1 Pin Male
part A pins: 1 (io)
part B pins: 2 (io)
part C pins: 3 (io)
part D pins: 4 (io)
part E pins: 5 (io)
part F pins: 6 (io)
part G pins: 7 (io)
part H pins: 8 (io)

## Strip 20x1 Pin Male
designator J?
Strip 20x1 Pin Male
part A pins: 1 (io)
part B pins: 2 (io)
part C pins: 3 (io)
part D pins: 4 (io)
part E pins: 5 (io)
part F pins: 6 (io)
part G pins: 7 (io)
part H pins: 8 (io)
part I pins: 9 (io)
part J pins: 10 (io)
part K pins: 11 (io)
part L pins: 12 (io)
part M pins: 13 (io)
part N pins: 14 (io)
part O pins: 15 (io)
part P pins: 16 (io)
part Q pins: 17 (io)
part R pins: 18 (io)
part S pins: 19 (io)
part T pins: 20 (io)

## Terminal Block_1 Position_Female
designator J?
Terminal Block, 1 Position, Female
pins: 1 (io)

## Terminal Block_1 Position_Female_noPin
designator J?
Terminal Block, 1 Position, Female without Pin

## Terminal Block_1 Position_Male
designator J?
Terminal Block, 1 Position, Male
pins: 1 (io)

## Terminal Block_1 Position_Male_noPin
designator J?
Terminal Block, 1 Position, Male without Pin

## Terminal Block_1 Position_Screw Connection
designator J?
Terminal Block, 1 Position, Screw Connection
pins: 1 (io)

## Terminal Block_2 Positions_Female
designator J?
Terminal Block, 2 Positions, Female
pins: 1 (io), 2 (io)

## Terminal Block_2 Positions_Screw Connection
designator J?
Terminal Block, 2 Positions, Screw Connection
pins: 1 (io), 2 (io)

## Terminal Block_3 Positions_Female
designator J?
Terminal Block, 3 Positions, Female
pins: 1 (io), 2 (io), 3 (io)

## Terminal Block_3 Positions_Screw Connection
designator J?
Terminal Block, 3 Positions, Screw Connection
pins: 1 (io), 2 (io), 3 (io)

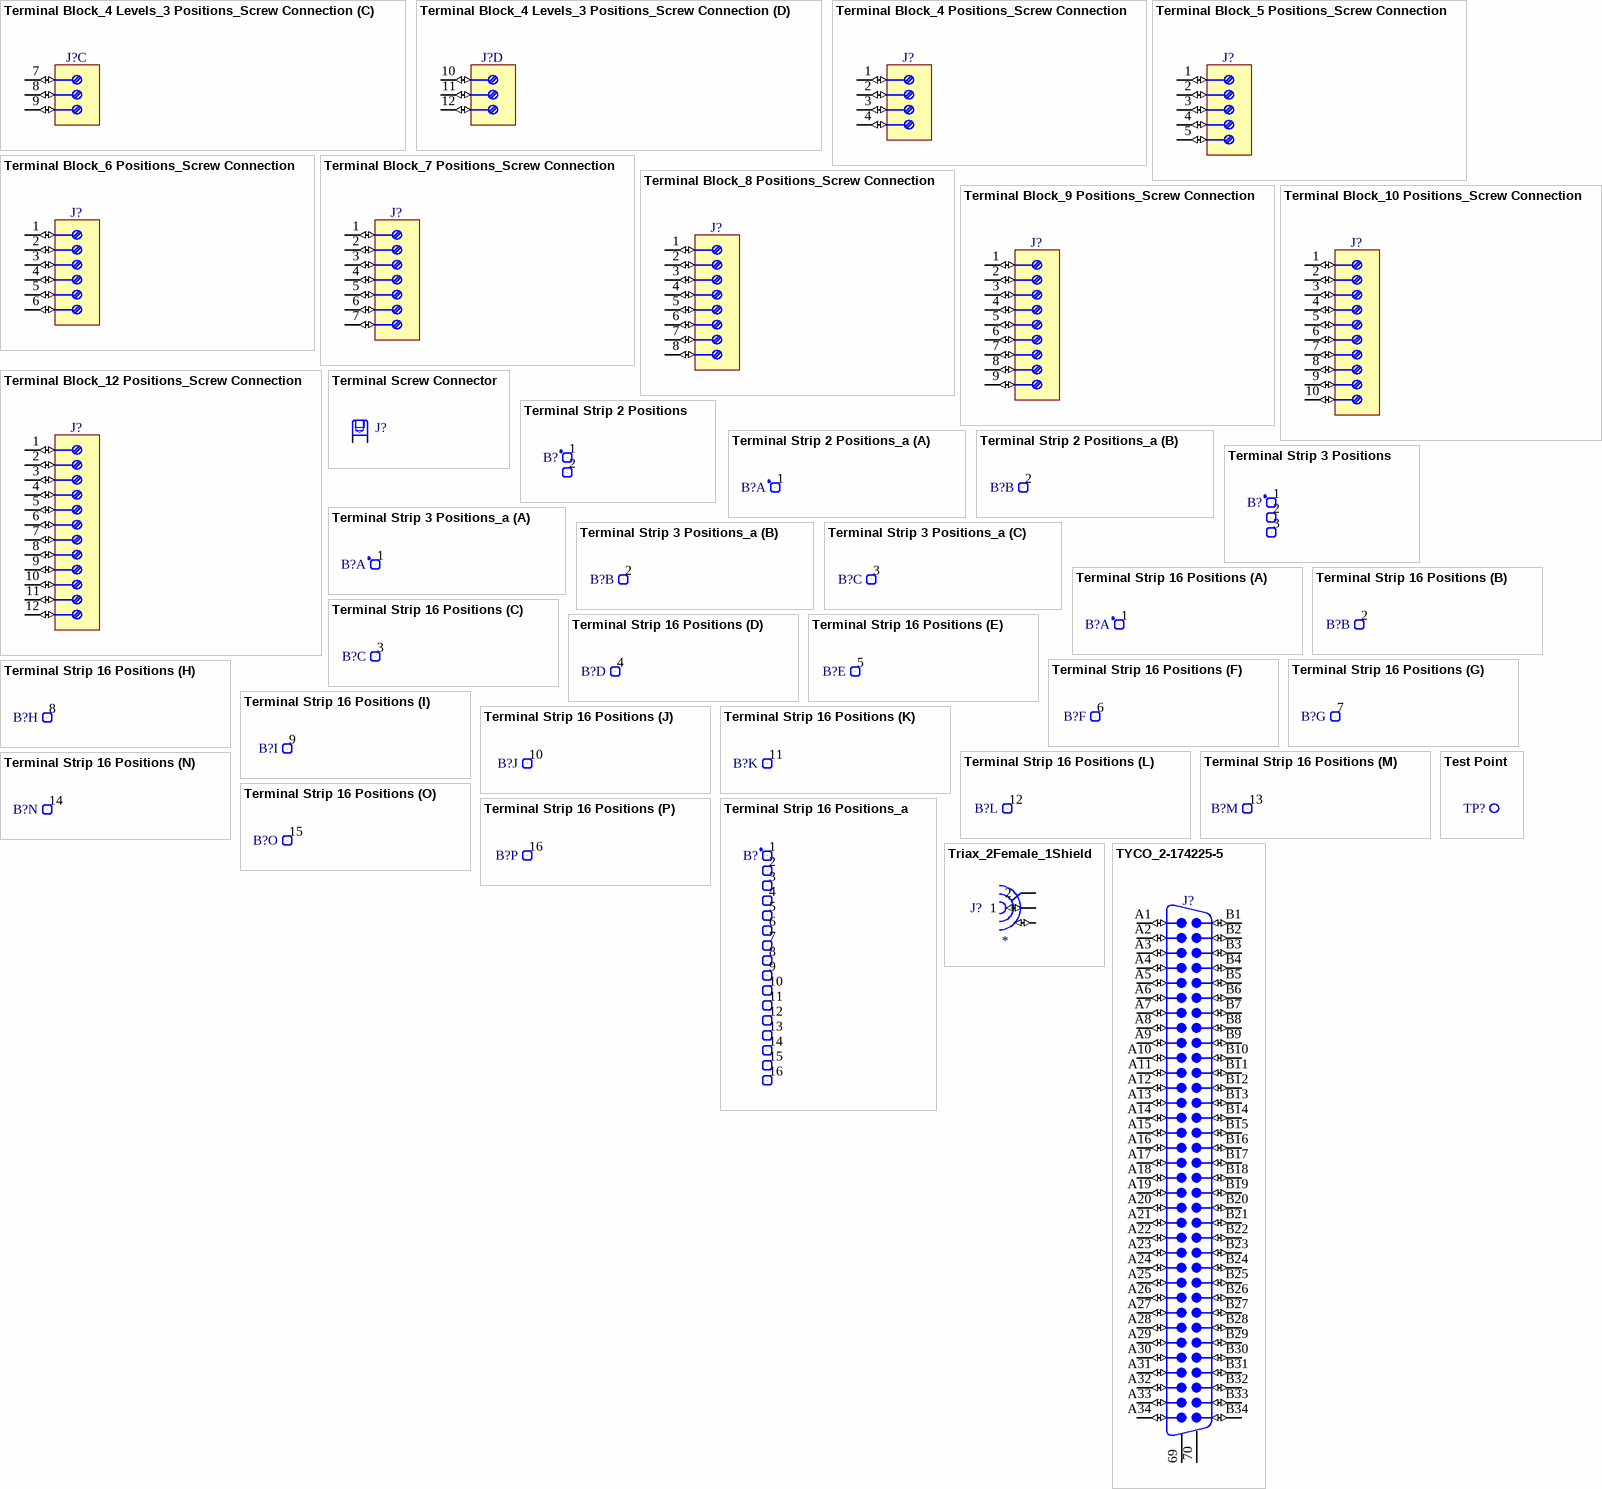
[diagram p72: symbols Terminal Block_4 Levels_3 Positions_Screw Connection to TYCO_2-174225-5]

## Terminal Block_4 Levels_3 Positions_Screw Connection
designator J?
Terminal Block_4 Levels_3 Positions_Screw Connection
part A pins: 1 (io), 2 (io), 3 (io)
part B pins: 4 (io), 5 (io), 6 (io)
part C pins: 7 (io), 8 (io), 9 (io)
part D pins: 10 (io), 11 (io), 12 (io)

## Terminal Block_4 Positions_Screw Connection
designator J?
Terminal Block, 4 Positions, Screw Connection
pins: 1 (io), 2 (io), 3 (io), 4 (io)

## Terminal Block_5 Positions_Screw Connection
designator J?
Terminal Block, 5 Positions, Screw Connection
pins: 1 (io), 2 (io), 3 (io), 4 (io), 5 (io)

## Terminal Block_6 Positions_Screw Connection
designator J?
Terminal Block, 6 Positions, Screw Connection
pins: 1 (io), 2 (io), 3 (io), 4 (io), 5 (io), 6 (io)

## Terminal Block_7 Positions_Screw Connection
designator J?
Terminal Block, 7 Positions, Screw Connection
pins: 1 (io), 2 (io), 3 (io), 4 (io), 5 (io), 6 (io), 7 (io)

## Terminal Block_8 Positions_Screw Connection
designator J?
Terminal Block, 8 Positions, Screw Connection
pins: 1 (io), 2 (io), 3 (io), 4 (io), 5 (io), 6 (io), 7 (io), 8 (io)

## Terminal Block_9 Positions_Screw Connection
designator J?
Terminal Block, 9 Positions, Screw Connection
pins: 1 (io), 2 (io), 3 (io), 4 (io), 5 (io), 6 (io), 7 (io), 8 (io), 9 (io)

## Terminal Block_10 Positions_Screw Connection
designator J?
Terminal Block, 10 Positions, Screw Connection
pins: 1 (io), 2 (io), 3 (io), 4 (io), 5 (io), 6 (io), 7 (io), 8 (io), 9 (io), 10 (io)

## Terminal Block_12 Positions_Screw Connection
designator J?
Terminal Block, 12 Positions, Screw Connection
pins: 1 (io), 2 (io), 3 (io), 4 (io), 5 (io), 6 (io), 7 (io), 8 (io), 9 (io), 10 (io), 11 (io), 12 (io)

## Terminal Screw Connector
designator J?
Terminal Screw Connector
pins: 1 (io), 1 (io)

## Terminal Strip 2 Positions
designator B?
2 Positions Terminal Strip
pins: 1 (io), 2 (io)

## Terminal Strip 2 Positions_a
designator B?
Terminal Strip 2 Positions
part A pins: 1 (io)
part B pins: 2 (io)

## Terminal Strip 3 Positions
designator B?
3 Positions Terminal Strip
pins: 1 (io), 2 (io), 3 (io)

## Terminal Strip 3 Positions_a
designator B?
Terminal Strip 3 Positions
part A pins: 1 (io)
part B pins: 2 (io)
part C pins: 3 (io)

## Terminal Strip 16 Positions
designator B?
Terminal Strip 16 Positions
part A pins: 1 (io)
part B pins: 2 (io)
part C pins: 3 (io)
part D pins: 4 (io)
part E pins: 5 (io)
part F pins: 6 (io)
part G pins: 7 (io)
part H pins: 8 (io)
part I pins: 9 (io)
part J pins: 10 (io)
part K pins: 11 (io)
part L pins: 12 (io)
part M pins: 13 (io)
part N pins: 14 (io)
part O pins: 15 (io)
part P pins: 16 (io)

## Terminal Strip 16 Positions_a
designator B?
16 Positions Terminal Strip
pins: 1 (io), 2 (io), 3 (io), 4 (io), 5 (io), 6 (io), 7 (io), 8 (io), 9 (io), 10 (io), 11 (io), 12 (io), 13 (io), 14 (io), 15 (io), 16 (io)

## Test Point
designator TP?
Test Point
pins: 1 (io)

## Triax_2Female_1Shield
designator J?
pins: 1 (io), 2 (io), 3 (io)

## TYCO_2-174225-5
designator J?
AMPLIMITE 0.50 Male Serie II Type B
pins: 69, 70, A1 (io), A2 (io), A3 (io), A4 (io), A5 (io), A6 (io), A7 (io), A8 (io), A9 (io), A10 (io), A11 (io), A12 (io), A13 (io), A14 (io), A15 (io), A16 (io), A17 (io), A18 (io), A19 (io), A20 (io), A21 (io), A22 (io), A23 (io), A24 (io), A25 (io), A26 (io), A27 (io), A28 (io), A29 (io), A30 (io), A31 (io), A32 (io), A33 (io), A34 (io), B1 (io), B2 (io), B3 (io), B4 (io), B5 (io), B6 (io), B7 (io), B8 (io), B9 (io), B10 (io), B11 (io), B12 (io), B13 (io), B14 (io), B15 (io), B16 (io), B17 (io), B18 (io), B19 (io), B20 (io), B21 (io), B22 (io), B23 (io), B24 (io), B25 (io), B26 (io), B27 (io), B28 (io), B29 (io), B30 (io), B31 (io), B32 (io), B33 (io), B34 (io)
1 alternate drawing of the same symbol

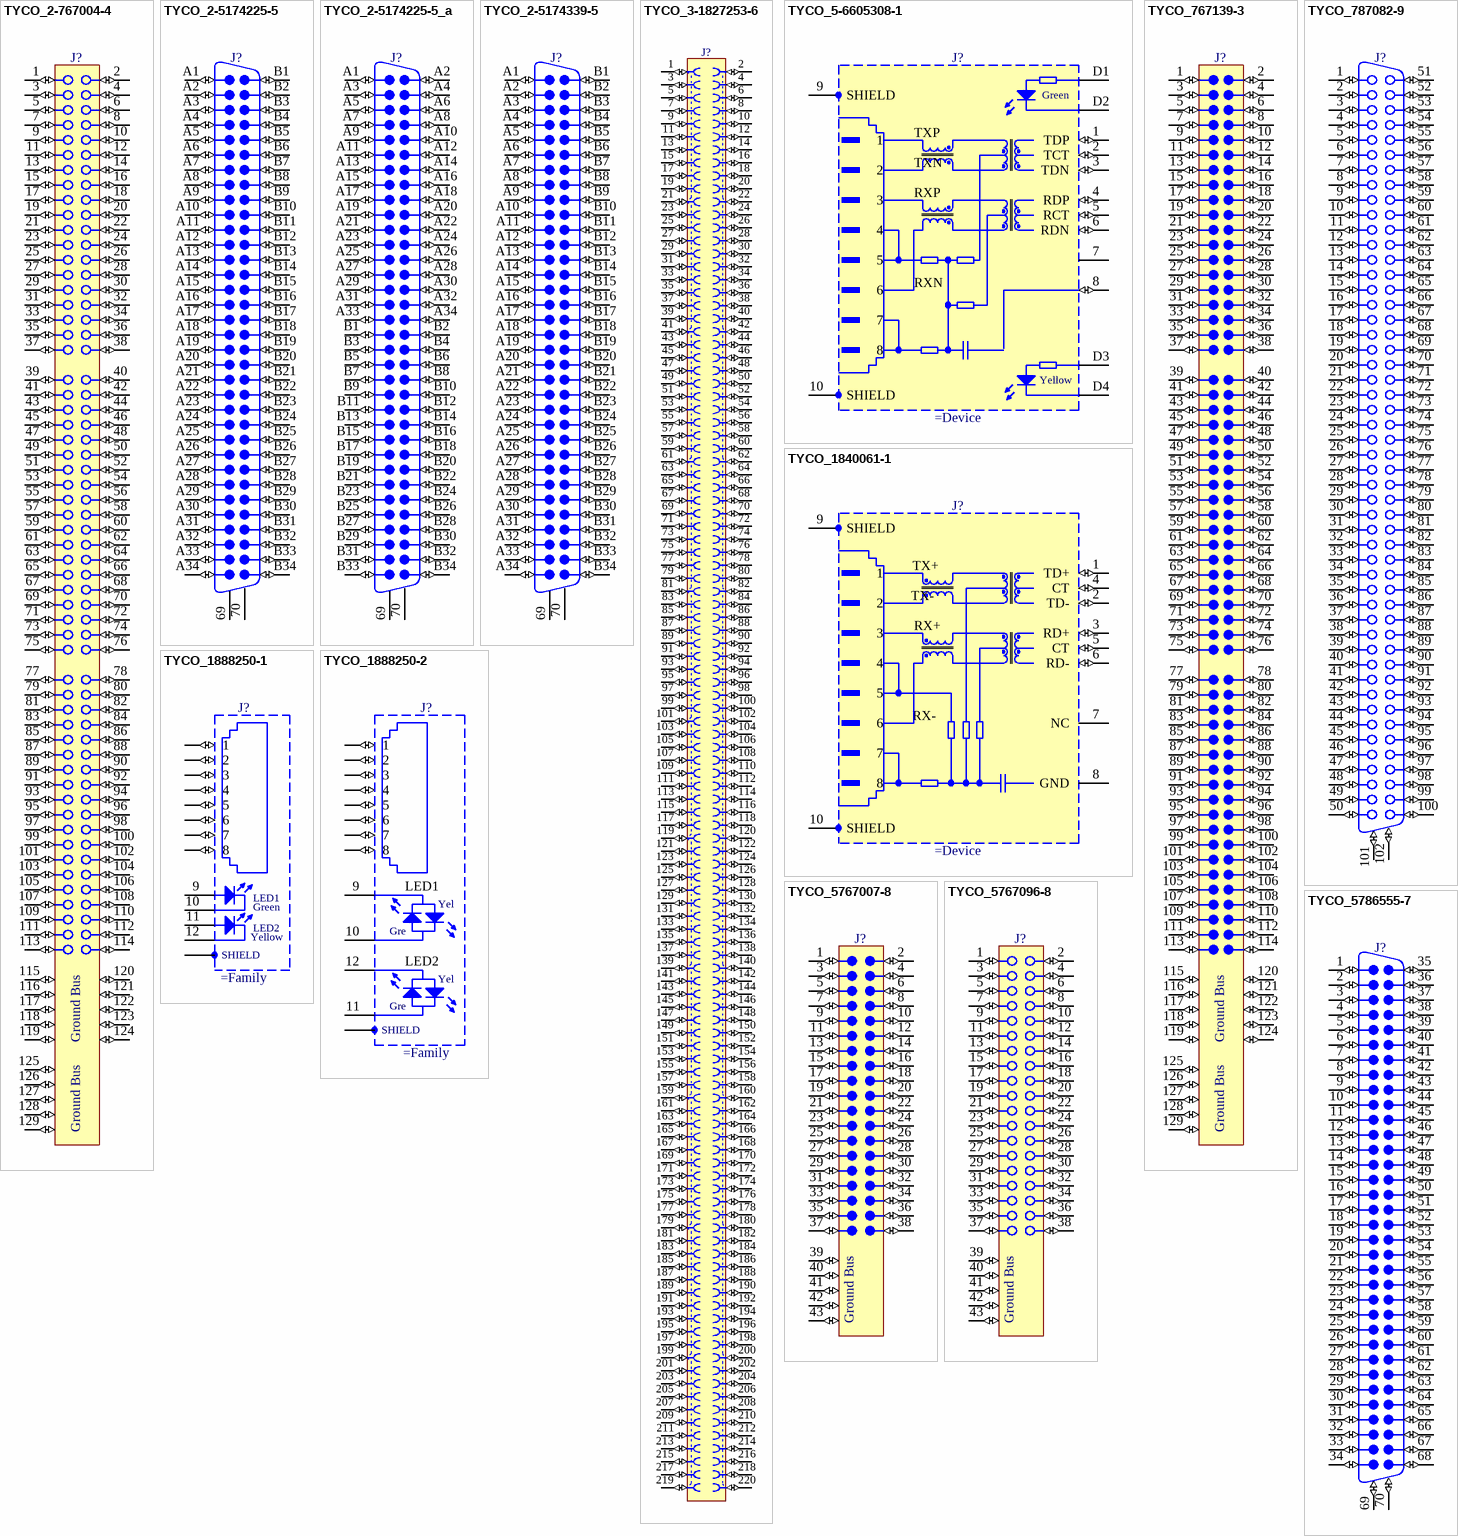
[diagram p73: symbols TYCO_2-767004-4 to TYCO_5786555-7]

## TYCO_2-767004-4
designator J?
.0114 Positions, Pitch 25 [0.64], Centerline Matched Impedance Vertical Receptacle (MICTOR)
pins: 1 (io), 2 (io), 3 (io), 4 (io), 5 (io), 6 (io), 7 (io), 8 (io), 9 (io), 10 (io), 11 (io), 12 (io), 13 (io), 14 (io), 15 (io), 16 (io), 17 (io), 18 (io), 19 (io), 20 (io), 21 (io), 22 (io), 23 (io), 24 (io), 25 (io), 26 (io), 27 (io), 28 (io), 29 (io), 30 (io), 31 (io), 32 (io), 33 (io), 34 (io), 35 (io), 36 (io), 37 (io), 38 (io), 39 (io), 40 (io), 41 (io), 42 (io), 43 (io), 44 (io), 45 (io), 46 (io), 47 (io), 48 (io), 49 (io), 50 (io), 51 (io), 52 (io), 53 (io), 54 (io), 55 (io), 56 (io), 57 (io), 58 (io), 59 (io), 60 (io), 61 (io), 62 (io), 63 (io), 64 (io), 65 (io), 66 (io), 67 (io), 68 (io), 69 (io), 70 (io), 71 (io), 72 (io), 73 (io), 74 (io), 75 (io), 76 (io), 77 (io), 78 (io), 79 (io), 80 (io), 81 (io), 82 (io), 83 (io), 84 (io), 85 (io), 86 (io), 87 (io), 88 (io), 89 (io), 90 (io), 91 (io), 92 (io), 93 (io), 94 (io), 95 (io), 96 (io), 97 (io), 98 (io), 99 (io), 100 (io), 101 (io), 102 (io), 103 (io), 104 (io), 105 (io), 106 (io), 107 (io), 108 (io), 109 (io), 110 (io), 111 (io), 112 (io), 113 (io), 114 (io), 115 (io), 116 (io), 117 (io), 118 (io), 119 (io), 120 (io), 121 (io), 122 (io), 123 (io), 124 (io), 125 (io), 126 (io), 127 (io), 128 (io), 129 (io)
text: Ground Bus

## TYCO_2-5174225-5
designator J?
AMPLIMITE 0.50 Male Serie II Type B
pins: 69, 70, A1 (io), A2 (io), A3 (io), A4 (io), A5 (io), A6 (io), A7 (io), A8 (io), A9 (io), A10 (io), A11 (io), A12 (io), A13 (io), A14 (io), A15 (io), A16 (io), A17 (io), A18 (io), A19 (io), A20 (io), A21 (io), A22 (io), A23 (io), A24 (io), A25 (io), A26 (io), A27 (io), A28 (io), A29 (io), A30 (io), A31 (io), A32 (io), A33 (io), A34 (io), B1 (io), B2 (io), B3 (io), B4 (io), B5 (io), B6 (io), B7 (io), B8 (io), B9 (io), B10 (io), B11 (io), B12 (io), B13 (io), B14 (io), B15 (io), B16 (io), B17 (io), B18 (io), B19 (io), B20 (io), B21 (io), B22 (io), B23 (io), B24 (io), B25 (io), B26 (io), B27 (io), B28 (io), B29 (io), B30 (io), B31 (io), B32 (io), B33 (io), B34 (io)
1 alternate drawing of the same symbol

## TYCO_2-5174225-5_a
designator J?
AMPLIMITE 0.50 Male Serie II Type B
pins: 69, 70, A1 (io), A2 (io), A3 (io), A4 (io), A5 (io), A6 (io), A7 (io), A8 (io), A9 (io), A10 (io), A11 (io), A12 (io), A13 (io), A14 (io), A15 (io), A16 (io), A17 (io), A18 (io), A19 (io), A20 (io), A21 (io), A22 (io), A23 (io), A24 (io), A25 (io), A26 (io), A27 (io), A28 (io), A29 (io), A30 (io), A31 (io), A32 (io), A33 (io), A34 (io), B1 (io), B2 (io), B3 (io), B4 (io), B5 (io), B6 (io), B7 (io), B8 (io), B9 (io), B10 (io), B11 (io), B12 (io), B13 (io), B14 (io), B15 (io), B16 (io), B17 (io), B18 (io), B19 (io), B20 (io), B21 (io), B22 (io), B23 (io), B24 (io), B25 (io), B26 (io), B27 (io), B28 (io), B29 (io), B30 (io), B31 (io), B32 (io), B33 (io), B34 (io)
1 alternate drawing of the same symbol

## TYCO_2-5174339-5
designator J?
AMPLIMITE 0.50 Male Serie II Type B
pins: 69, 70, A1 (io), A2 (io), A3 (io), A4 (io), A5 (io), A6 (io), A7 (io), A8 (io), A9 (io), A10 (io), A11 (io), A12 (io), A13 (io), A14 (io), A15 (io), A16 (io), A17 (io), A18 (io), A19 (io), A20 (io), A21 (io), A22 (io), A23 (io), A24 (io), A25 (io), A26 (io), A27 (io), A28 (io), A29 (io), A30 (io), A31 (io), A32 (io), A33 (io), A34 (io), B1 (io), B2 (io), B3 (io), B4 (io), B5 (io), B6 (io), B7 (io), B8 (io), B9 (io), B10 (io), B11 (io), B12 (io), B13 (io), B14 (io), B15 (io), B16 (io), B17 (io), B18 (io), B19 (io), B20 (io), B21 (io), B22 (io), B23 (io), B24 (io), B25 (io), B26 (io), B27 (io), B28 (io), B29 (io), B30 (io), B31 (io), B32 (io), B33 (io), B34 (io)
1 alternate drawing of the same symbol

## TYCO_3-1827253-6
designator J?
220 Positions, 0.5mm Pitch, Surface Mount, Board-to-Board Plug Connector with Ground Plate
pins: 1 (io), 2 (io), 3 (io), 4 (io), 5 (io), 6 (io), 7 (io), 8 (io), 9 (io), 10 (io), 11 (io), 12 (io), 13 (io), 14 (io), 15 (io), 16 (io), 17 (io), 18 (io), 19 (io), 20 (io), 21 (io), 22 (io), 23 (io), 24 (io), 25 (io), 26 (io), 27 (io), 28 (io), 29 (io), 30 (io), 31 (io), 32 (io), 33 (io), 34 (io), 35 (io), 36 (io), 37 (io), 38 (io), 39 (io), 40 (io), 41 (io), 42 (io), 43 (io), 44 (io), 45 (io), 46 (io), 47 (io), 48 (io), 49 (io), 50 (io), 51 (io), 52 (io), 53 (io), 54 (io), 55 (io), 56 (io), 57 (io), 58 (io), 59 (io), 60 (io), 61 (io), 62 (io), 63 (io), 64 (io), 65 (io), 66 (io), 67 (io), 68 (io), 69 (io), 70 (io), 71 (io), 72 (io), 73 (io), 74 (io), 75 (io), 76 (io), 77 (io), 78 (io), 79 (io), 80 (io), 81 (io), 82 (io), 83 (io), 84 (io), 85 (io), 86 (io), 87 (io), 88 (io), 89 (io), 90 (io), 91 (io), 92 (io), 93 (io), 94 (io), 95 (io), 96 (io), 97 (io), 98 (io), 99 (io), 100 (io), 101 (io), 102 (io), 103 (io), 104 (io), 105 (io), 106 (io), 107 (io), 108 (io), 109 (io), 110 (io), 111 (io), 112 (io), 113 (io), 114 (io), 115 (io), 116 (io), 117 (io), 118 (io), 119 (io), 120 (io), 121 (io), 122 (io), 123 (io), 124 (io), 125 (io), 126 (io), 127 (io), 128 (io), 129 (io), 130 (io), 131 (io), 132 (io), 133 (io), 134 (io), 135 (io), 136 (io), 137 (io), 138 (io), 139 (io), 140 (io), 141 (io), 142 (io), 143 (io), 144 (io), 145 (io), 146 (io), 147 (io), 148 (io), 149 (io), 150 (io), 151 (io), 152 (io), 153 (io), 154 (io), 155 (io), 156 (io), 157 (io), 158 (io), 159 (io), 160 (io), 161 (io), 162 (io), 163 (io), 164 (io), 165 (io), 166 (io), 167 (io), 168 (io), 169 (io), 170 (io), 171 (io), 172 (io), 173 (io), 174 (io), 175 (io), 176 (io), 177 (io), 178 (io), 179 (io), 180 (io), 181 (io), 182 (io), 183 (io), 184 (io), 185 (io), 186 (io), 187 (io), 188 (io), 189 (io), 190 (io), 191 (io), 192 (io), 193 (io), 194 (io), 195 (io), 196 (io), 197 (io), 198 (io), 199 (io), 200 (io), 201 (io), 202 (io), 203 (io), 204 (io), 205 (io), 206 (io), 207 (io), 208 (io), 209 (io), 210 (io), 211 (io), 212 (io), 213 (io), 214 (io), 215 (io), 216 (io), 217 (io), 218 (io), 219 (io), 220 (io)

## TYCO_5-6605308-1
designator J?
1 Port, Yellow/Green LEDs, RJ45 10/100Base-T Ethernet, Mag45 Connector Module With Integrated Magnetics
pins: 1 TDP (io), 2 TCT (io), 3 TDN (io), 4 RDP (io), 5 RCT (io), 6 RDN (io), 7, 8 (io), 9 SHIELD (power), 10 SHIELD (power), D1, D2, D3, D4
text: Green; TXP; TXN; RXP; RXN; Yellow

## TYCO_767139-3
designator J?
.0114 Positions, Pitch 25 [0.64], Centerline Matched Impedance Vertical Plug (MICTOR)
pins: 1 (io), 2 (io), 3 (io), 4 (io), 5 (io), 6 (io), 7 (io), 8 (io), 9 (io), 10 (io), 11 (io), 12 (io), 13 (io), 14 (io), 15 (io), 16 (io), 17 (io), 18 (io), 19 (io), 20 (io), 21 (io), 22 (io), 23 (io), 24 (io), 25 (io), 26 (io), 27 (io), 28 (io), 29 (io), 30 (io), 31 (io), 32 (io), 33 (io), 34 (io), 35 (io), 36 (io), 37 (io), 38 (io), 39 (io), 40 (io), 41 (io), 42 (io), 43 (io), 44 (io), 45 (io), 46 (io), 47 (io), 48 (io), 49 (io), 50 (io), 51 (io), 52 (io), 53 (io), 54 (io), 55 (io), 56 (io), 57 (io), 58 (io), 59 (io), 60 (io), 61 (io), 62 (io), 63 (io), 64 (io), 65 (io), 66 (io), 67 (io), 68 (io), 69 (io), 70 (io), 71 (io), 72 (io), 73 (io), 74 (io), 75 (io), 76 (io), 77 (io), 78 (io), 79 (io), 80 (io), 81 (io), 82 (io), 83 (io), 84 (io), 85 (io), 86 (io), 87 (io), 88 (io), 89 (io), 90 (io), 91 (io), 92 (io), 93 (io), 94 (io), 95 (io), 96 (io), 97 (io), 98 (io), 99 (io), 100 (io), 101 (io), 102 (io), 103 (io), 104 (io), 105 (io), 106 (io), 107 (io), 108 (io), 109 (io), 110 (io), 111 (io), 112 (io), 113 (io), 114 (io), 115 (io), 116 (io), 117 (io), 118 (io), 119 (io), 120 (io), 121 (io), 122 (io), 123 (io), 124 (io), 125 (io), 126 (io), 127 (io), 128 (io), 129 (io)
text: Ground Bus

## TYCO_787082-9
designator J?
AMPLIMITE .050 Series, 100 Positions Right Angled Receptacle
pins: 1 (io), 2 (io), 3 (io), 4 (io), 5 (io), 6 (io), 7 (io), 8 (io), 9 (io), 10 (io), 11 (io), 12 (io), 13 (io), 14 (io), 15 (io), 16 (io), 17 (io), 18 (io), 19 (io), 20 (io), 21 (io), 22 (io), 23 (io), 24 (io), 25 (io), 26 (io), 27 (io), 28 (io), 29 (io), 30 (io), 31 (io), 32 (io), 33 (io), 34 (io), 35 (io), 36 (io), 37 (io), 38 (io), 39 (io), 40 (io), 41 (io), 42 (io), 43 (io), 44 (io), 45 (io), 46 (io), 47 (io), 48 (io), 49 (io), 50 (io), 51 (io), 52 (io), 53 (io), 54 (io), 55 (io), 56 (io), 57 (io), 58 (io), 59 (io), 60 (io), 61 (io), 62 (io), 63 (io), 64 (io), 65 (io), 66 (io), 67 (io), 68 (io), 69 (io), 70 (io), 71 (io), 72 (io), 73 (io), 74 (io), 75 (io), 76 (io), 77 (io), 78 (io), 79 (io), 80 (io), 81 (io), 82 (io), 83 (io), 84 (io), 85 (io), 86 (io), 87 (io), 88 (io), 89 (io), 90 (io), 91 (io), 92 (io), 93 (io), 94 (io), 95 (io), 96 (io), 97 (io), 98 (io), 99 (io), 100 (io), 101 (io), 102 (io)
1 alternate drawing of the same symbol

## TYCO_1840061-1
designator J?
1 Port, Without LED, RJ45 10/100Base-T Ethernet Connector Module With Integrated Magnetics
pins: 1 TD+ (io), 2 TD- (io), 3 RD+ (io), 4 CT (io), 5 CT (io), 6 RD- (io), 7 NC, 8 GND (power), 9 SHIELD (power), 10 SHIELD (power)
text: TX+; TX-; RX+; RX-

## TYCO_1888250-1
designator J?
1 Port, Yellow/Green LEDs, RJ45 10/100Base-T, Cat 5, Ethernet Through Hole Press Fit Connector
pins: 1 (io), 2 (io), 3 (io), 4 (io), 5 (io), 6 (io), 7 (io), 8 (io), 9 CLED1, 10 ALED1, 11 ALED2, 12 CLED2, SHIELD
text: LED1; Green; LED2; Yellow

## TYCO_1888250-2
designator J?
1 Port, Yellow/Green LEDs, RJ45 10/100Base-T, Cat 5, Ethernet Through Hole Press Fit Connector
pins: 1 (io), 2 (io), 3 (io), 4 (io), 5 (io), 6 (io), 7 (io), 8 (io), 9 CLED1, 10 ALED1, 11 ALED2, 12 CLED2, SHIELD
text: LED1; Yel; Gre; LED2

## TYCO_5767007-8
designator J?
38 Positions, Pitch 25 [0.64], Centerline Matched Impedance Vertical Plug Connector (MICTOR)
pins: 1 (io), 2 (io), 3 (io), 4 (io), 5 (io), 6 (io), 7 (io), 8 (io), 9 (io), 10 (io), 11 (io), 12 (io), 13 (io), 14 (io), 15 (io), 16 (io), 17 (io), 18 (io), 19 (io), 20 (io), 21 (io), 22 (io), 23 (io), 24 (io), 25 (io), 26 (io), 27 (io), 28 (io), 29 (io), 30 (io), 31 (io), 32 (io), 33 (io), 34 (io), 35 (io), 36 (io), 37 (io), 38 (io), 39 (io), 40 (io), 41 (io), 42 (io), 43 (io)
text: Ground Bus

## TYCO_5767096-8
designator J?
38 Positions, Pitch 25 [0.64], Centerline Matched Impedance Vertical Receptacle (MICTOR)
pins: 1 (io), 2 (io), 3 (io), 4 (io), 5 (io), 6 (io), 7 (io), 8 (io), 9 (io), 10 (io), 11 (io), 12 (io), 13 (io), 14 (io), 15 (io), 16 (io), 17 (io), 18 (io), 19 (io), 20 (io), 21 (io), 22 (io), 23 (io), 24 (io), 25 (io), 26 (io), 27 (io), 28 (io), 29 (io), 30 (io), 31 (io), 32 (io), 33 (io), 34 (io), 35 (io), 36 (io), 37 (io), 38 (io), 39 (io), 40 (io), 41 (io), 42 (io), 43 (io)
text: Ground Bus

## TYCO_5786555-7
designator J?
AMPLIMITE .050 Series, 68 Positions Vertical Receptacle, with ACTION PIN Tails (Press-Fit), Series III
pins: 1 (io), 2 (io), 3 (io), 4 (io), 5 (io), 6 (io), 7 (io), 8 (io), 9 (io), 10 (io), 11 (io), 12 (io), 13 (io), 14 (io), 15 (io), 16 (io), 17 (io), 18 (io), 19 (io), 20 (io), 21 (io), 22 (io), 23 (io), 24 (io), 25 (io), 26 (io), 27 (io), 28 (io), 29 (io), 30 (io), 31 (io), 32 (io), 33 (io), 34 (io), 35 (io), 36 (io), 37 (io), 38 (io), 39 (io), 40 (io), 41 (io), 42 (io), 43 (io), 44 (io), 45 (io), 46 (io), 47 (io), 48 (io), 49 (io), 50 (io), 51 (io), 52 (io), 53 (io), 54 (io), 55 (io), 56 (io), 57 (io), 58 (io), 59 (io), 60 (io), 61 (io), 62 (io), 63 (io), 64 (io), 65 (io), 66 (io), 67 (io), 68 (io), 69 (io), 70 (io)
1 alternate drawing of the same symbol

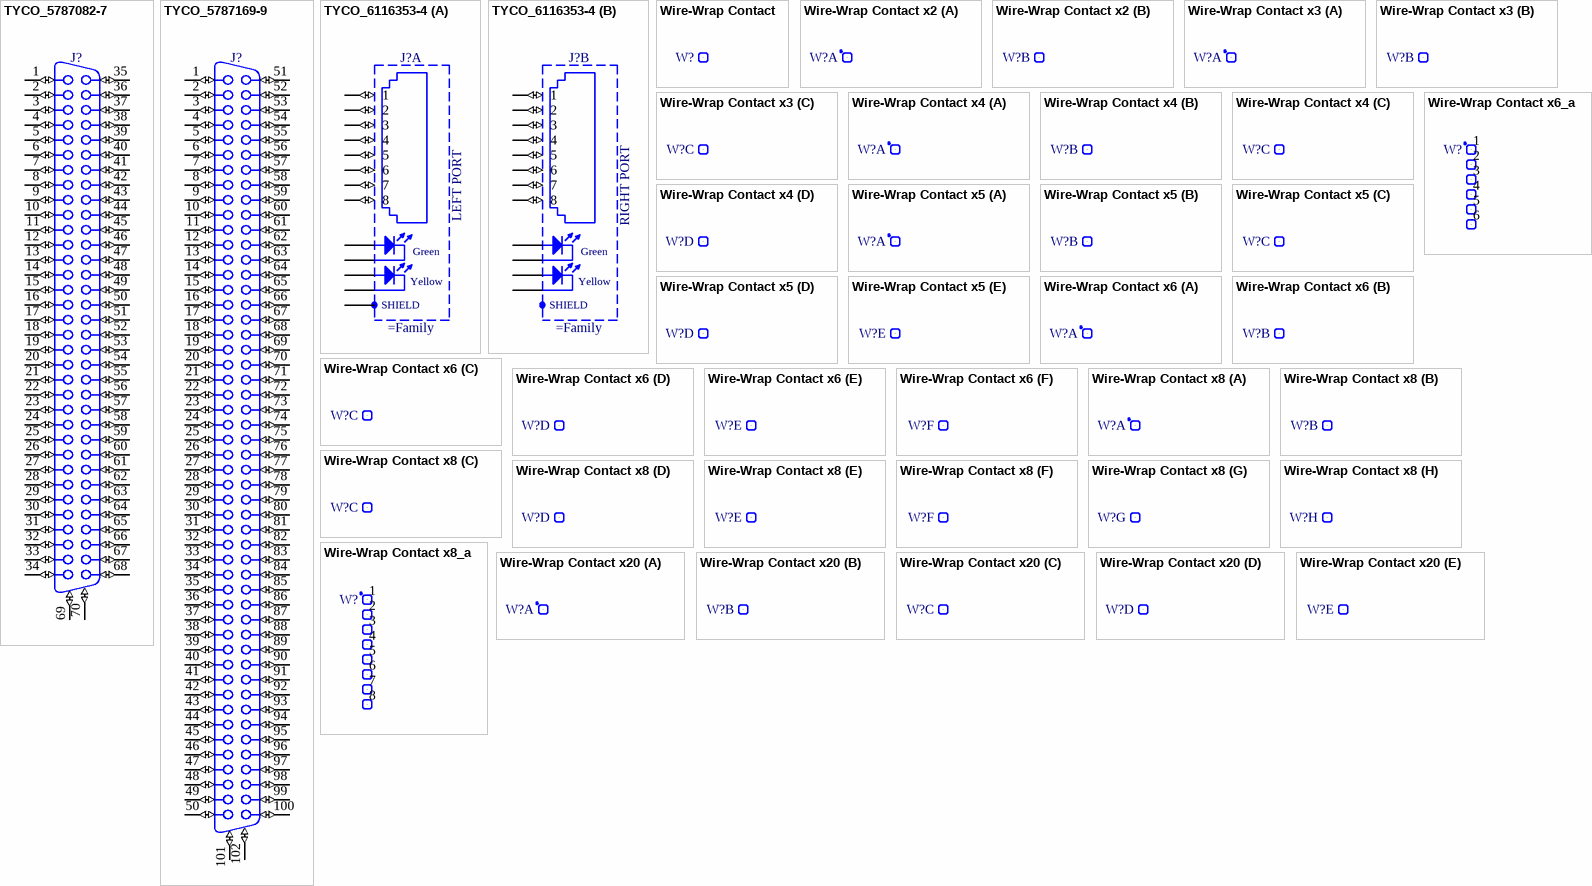
[diagram p74: symbols TYCO_5787082-7 to Wire-Wrap Contact x20]

## TYCO_5787082-7
designator J?
68 contacts, AMPLIMITE .050", Right Angled Receptacle Series III
pins: 1 (io), 2 (io), 3 (io), 4 (io), 5 (io), 6 (io), 7 (io), 8 (io), 9 (io), 10 (io), 11 (io), 12 (io), 13 (io), 14 (io), 15 (io), 16 (io), 17 (io), 18 (io), 19 (io), 20 (io), 21 (io), 22 (io), 23 (io), 24 (io), 25 (io), 26 (io), 27 (io), 28 (io), 29 (io), 30 (io), 31 (io), 32 (io), 33 (io), 34 (io), 35 (io), 36 (io), 37 (io), 38 (io), 39 (io), 40 (io), 41 (io), 42 (io), 43 (io), 44 (io), 45 (io), 46 (io), 47 (io), 48 (io), 49 (io), 50 (io), 51 (io), 52 (io), 53 (io), 54 (io), 55 (io), 56 (io), 57 (io), 58 (io), 59 (io), 60 (io), 61 (io), 62 (io), 63 (io), 64 (io), 65 (io), 66 (io), 67 (io), 68 (io), 69 (io), 70 (io)
1 alternate drawing of the same symbol

## TYCO_5787169-9
designator J?
AMPLIMITE .050 Series, 100 Positions Right Angled Receptacle
pins: 1 (io), 2 (io), 3 (io), 4 (io), 5 (io), 6 (io), 7 (io), 8 (io), 9 (io), 10 (io), 11 (io), 12 (io), 13 (io), 14 (io), 15 (io), 16 (io), 17 (io), 18 (io), 19 (io), 20 (io), 21 (io), 22 (io), 23 (io), 24 (io), 25 (io), 26 (io), 27 (io), 28 (io), 29 (io), 30 (io), 31 (io), 32 (io), 33 (io), 34 (io), 35 (io), 36 (io), 37 (io), 38 (io), 39 (io), 40 (io), 41 (io), 42 (io), 43 (io), 44 (io), 45 (io), 46 (io), 47 (io), 48 (io), 49 (io), 50 (io), 51 (io), 52 (io), 53 (io), 54 (io), 55 (io), 56 (io), 57 (io), 58 (io), 59 (io), 60 (io), 61 (io), 62 (io), 63 (io), 64 (io), 65 (io), 66 (io), 67 (io), 68 (io), 69 (io), 70 (io), 71 (io), 72 (io), 73 (io), 74 (io), 75 (io), 76 (io), 77 (io), 78 (io), 79 (io), 80 (io), 81 (io), 82 (io), 83 (io), 84 (io), 85 (io), 86 (io), 87 (io), 88 (io), 89 (io), 90 (io), 91 (io), 92 (io), 93 (io), 94 (io), 95 (io), 96 (io), 97 (io), 98 (io), 99 (io), 100 (io), 101 (io), 102 (io)
1 alternate drawing of the same symbol

## TYCO_6116353-4
designator J?
2 Port, Yellow/Green LEDs, Right Angle RJ45 10/100 Base-T Ethernet Jack Module (Inverted Face)
part A pins: 1L 1 (io), 2L 2 (io), 3L 3 (io), 4L 4 (io), 5L 5 (io), 6L 6 (io), 7L 7 (io), 8L 8 (io), AGL "Anode Green Left", AYL "Anode Yellow Left", CGL "Cathode Green Left", CYL "Cathode Yellow Left", SHIELD
part B pins: 1R 1 (io), 2R 2 (io), 3R 3 (io), 4R 4 (io), 5R 5 (io), 6R 6 (io), 7R 7 (io), 8R 8 (io), AGR "Anode Green Right", AYR "Anode Yellow Right", CGR "Cathode Green Right", CYR "Cathode Yellow Right"
part A text: LEFT PORT; Green; Yellow
part B text: RIGHT PORT; Green; Yellow

## Wire-Wrap Contact
designator W?
Single Mini Wire-Wrap Contact
pins: 1 (io)

## Wire-Wrap Contact x2
designator W?
2 Mini Wire-Wrap Contact Strip Header
part A pins: 1 (io)
part B pins: 2 (io)

## Wire-Wrap Contact x3
designator W?
3 Mini Wire-Wrap Contact Strip Header
part A pins: 1 (io)
part B pins: 2 (io)
part C pins: 3 (io)

## Wire-Wrap Contact x4
designator W?
4 Mini Wire-Wrap Contact Strip Header
part A pins: 1 (io)
part B pins: 2 (io)
part C pins: 3 (io)
part D pins: 4 (io)

## Wire-Wrap Contact x5
designator W?
5 Mini Wire-Wrap Contact Strip Header
part A pins: 1 (io)
part B pins: 2 (io)
part C pins: 3 (io)
part D pins: 4 (io)
part E pins: 5 (io)

## Wire-Wrap Contact x6
designator W?
6 Mini Wire-Wrap Contact Strip Header
part A pins: 1 (io)
part B pins: 2 (io)
part C pins: 3 (io)
part D pins: 4 (io)
part E pins: 5 (io)
part F pins: 6 (io)

## Wire-Wrap Contact x6_a
designator W?
6 Mini Wire-Wrap Contact Strip Header
pins: 1 (io), 2 (io), 3 (io), 4 (io), 5 (io), 6 (io)

## Wire-Wrap Contact x8
designator W?
8 Mini Wire-Wrap Contact Strip Header
part A pins: 1 (io)
part B pins: 2 (io)
part C pins: 3 (io)
part D pins: 4 (io)
part E pins: 5 (io)
part F pins: 6 (io)
part G pins: 7 (io)
part H pins: 8 (io)

## Wire-Wrap Contact x8_a
designator W?
8 Mini Wire-Wrap Contact Strip Header
pins: 1 (io), 2 (io), 3 (io), 4 (io), 5 (io), 6 (io), 7 (io), 8 (io)

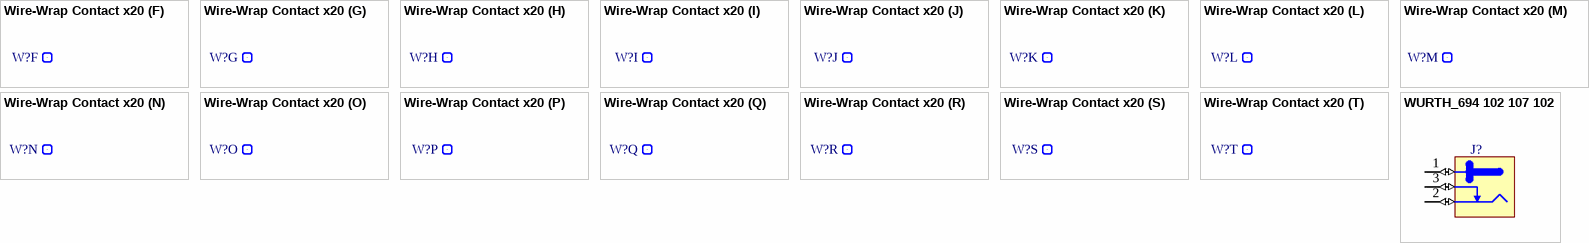
[diagram p75: symbols Wire-Wrap Contact x20 to WURTH_694 102 107 102]

## Wire-Wrap Contact x20
designator W?
20 Mini Wire-Wrap Contact Strip Header
part A pins: 1 (io)
part B pins: 2 (io)
part C pins: 3 (io)
part D pins: 4 (io)
part E pins: 5 (io)
part F pins: 6 (io)
part G pins: 7 (io)
part H pins: 8 (io)
part I pins: 9 (io)
part J pins: 10 (io)
part K pins: 11 (io)
part L pins: 12 (io)
part M pins: 13 (io)
part N pins: 14 (io)
part O pins: 15 (io)
part P pins: 16 (io)
part Q pins: 17 (io)
part R pins: 18 (io)
part S pins: 19 (io)
part T pins: 20 (io)

## WURTH_694 102 107 102
designator J?
18V/5A, Inside Contact Diameter 1mm, SMT DC Power Socket With Break Contact, Right Angled
pins: 1 (io), 2 (io), 3 (io)